# Altium schematic symbol library PC110.SchLib: 45 symbols (part 1 of 2)
Pins are listed as number, name and electrical type; pins without a type are passive.

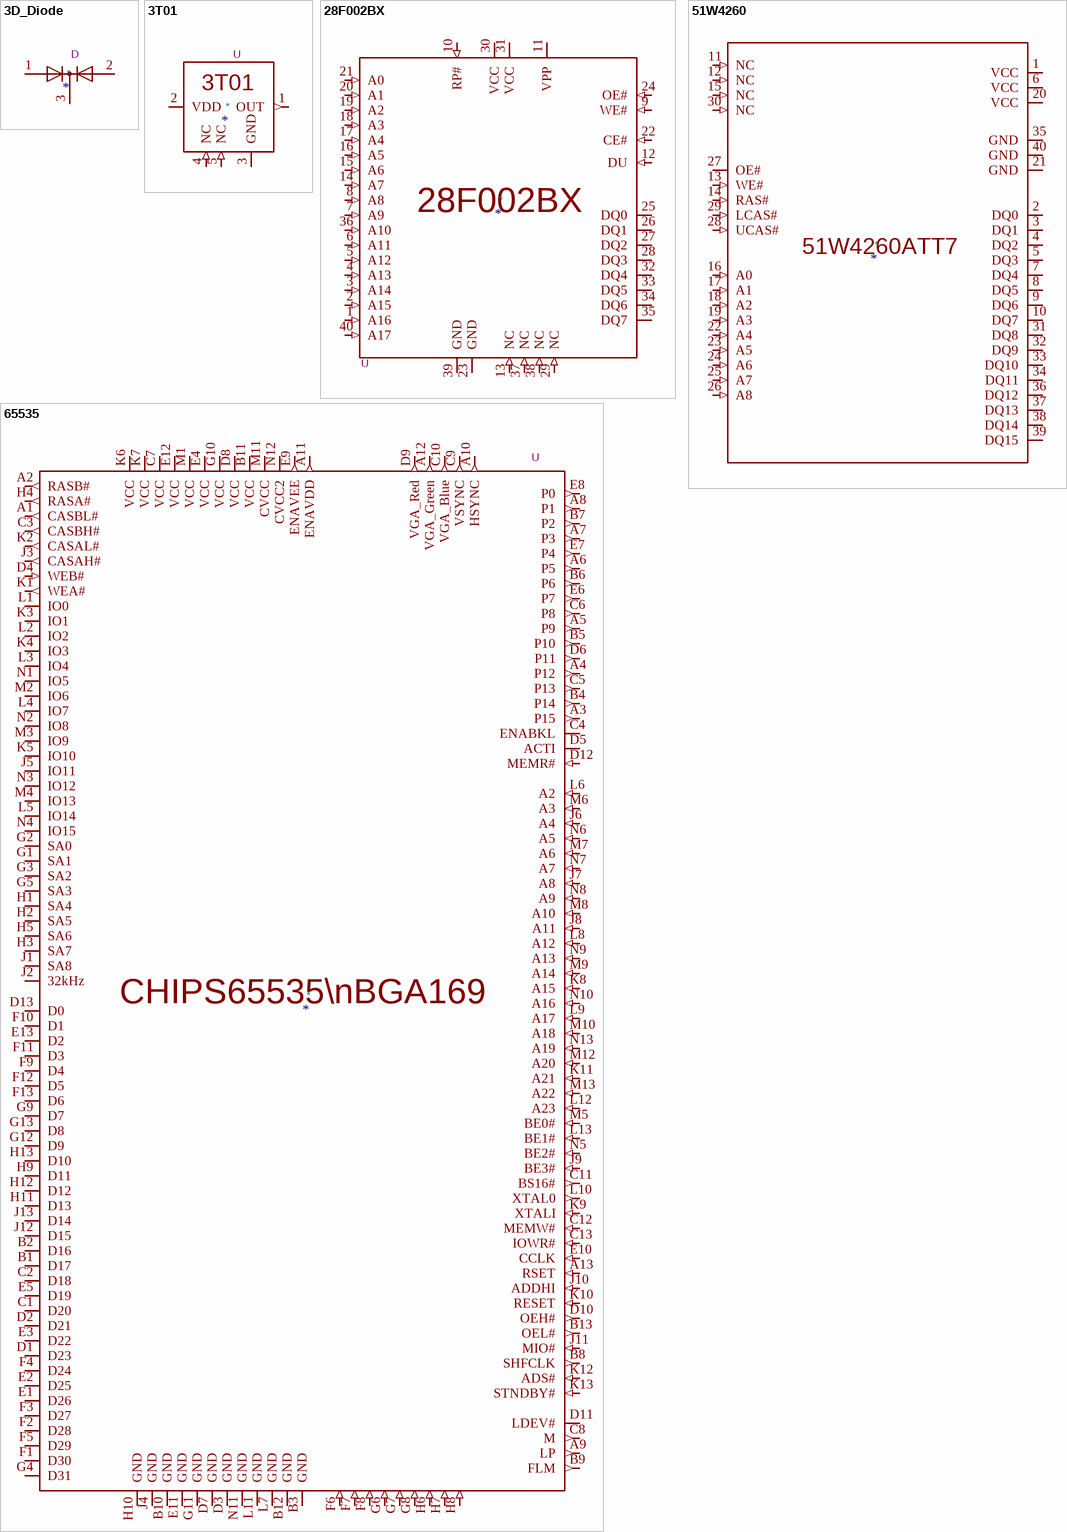
[diagram p0: symbols 3D_Diode to 65535]

## 3D_Diode
designator *  Reference: D
pins: 1, 2, 3

## 3T01
designator *  Reference: U
pins: 1 OUT (out), 2 VDD (power), 3 GND (power), 4 NC (in), 5 NC (in)

## 28F002BX
designator *  Reference: U
pins: 1 A16 (in), 2 A15 (in), 3 A14 (in), 4 A13 (in), 5 A12 (in), 6 A11 (in), 7 A9 (in), 8 A8 (in), 9 WE# (in), 10 RP# (in), 11 VPP (power), 12 DU (in), 13 NC (in), 14 A7 (in), 15 A6 (in), 16 A5 (in), 17 A4 (in), 18 A3 (in), 19 A2 (in), 20 A1 (in), 21 A0 (in), 22 CE# (in), 23 GND (power), 24 OE# (in), 25 DQ0 (io), 26 DQ1 (io), 27 DQ2 (io), 28 DQ3 (io), 29 NC (in), 30 VCC (power), 31 VCC (power), 32 DQ4 (io), 33 DQ5 (io), 34 DQ6 (io), 35 DQ7 (io), 36 A10 (in), 37 NC (in), 38 NC (in), 39 GND (power), 40 A17 (in)

## 51W4260
designator *
Reference: U
pins: 1 VCC (power), 2 DQ0 (io), 3 DQ1 (io), 4 DQ2 (io), 5 DQ3 (io), 6 VCC (power), 7 DQ4 (io), 8 DQ5 (io), 9 DQ6 (io), 10 DQ7 (io), 11 NC (in), 12 NC (in), 13 WE# (in), 14 RAS# (in), 15 NC (in), 16 A0 (in), 17 A1 (in), 18 A2 (in), 19 A3 (in), 20 VCC (power), 21 GND (power), 22 A4 (in), 23 A5 (in), 24 A6 (in), 25 A7 (in), 26 A8 (in), 27 OE# (power), 28 UCAS# (in), 29 LCAS# (in), 30 NC (in), 31 DQ8 (io), 32 DQ9 (io), 33 DQ10 (io), 34 DQ11 (io), 35 GND (power), 36 DQ12 (io), 37 DQ13 (io), 38 DQ14 (io), 39 DQ15 (io), 40 GND (power)
text: 51W4260ATT7

## 65535
designator *  Reference: U
pins: A1 CASBL# (out), A2 RASB# (out), A3 P15 (out), A4 P12 (out), A5 P9 (out), A6 P5 (out), A7 P3 (out), A8 P1 (out), A9 LP (out), A10 HSYNC (out), A11 ENAVDD (out), A12 VGA_Green (out), A13 RSET (in), B1 D17 (io), B2 D16 (io), B3 GND (power), B4 P14 (out), B5 P10 (out), B6 P6 (out), B7 P2 (out), B8 SHFCLK (out), B9 FLM (out), B10 GND (power), B11 VCC (power), B12 GND (power), B13 OEL# (out), C1 D20 (io), C2 D18 (io), C3 CASBH# (out), C4 ENABKL (io), C5 P13 (out), C6 P8 (out), C7 VCC (power), C8 M (out), C9 VSYNC (out), C10 VGA_Blue (out), C11 BS16# (out), C12 MEMW# (in), C13 IOWR# (in), D1 D23 (io), D2 D21 (io), D3 GND (power), D4 WEB# (in), D5 ACTI (io), D6 P11 (out), D7 GND (power), D8 VCC (power), D9 VGA_Red (out), D10 OEH# (out), D11 LDEV# (io), D12 MEMR# (in), D13 D0 (io), E1 D26 (io), E2 D25 (io), E3 D22 (io), E4 VCC (power), E5 D19 (io), E6 P7 (out), E7 P4 (out), E8 P0 (out), E9 ENAVEE (out), E10 CCLK (in), E11 GND (power), E12 VCC (power), E13 D2 (io), F1 D30 (io), F2 D28 (io), F3 D27 (io), F4 D24 (io), F5 D29 (io), F6 (in), F7 (in), F8 (in), F9 D4 (io), F10 D1 (io), F11 D3 (io), F12 D5 (io), F13 D6 (io), G1 SA1 (io), G2 SA0 (io), G3 SA2 (io), G4 D31 (io), G5 SA3 (io), G6 (in), G7 (in), G8 (in), G9 D7 (io), G10 VCC (power), G11 GND (power), G12 D9 (io), G13 D8 (io), H1 SA4 (io), H2 SA5 (io), H3 SA7 (io), H4 RASA# (out), H5 SA6 (io), H6 (in), H7 (in), H8 (in), H9 D11 (io), H10 GND (power), H11 D13 (io), H12 D12 (io), H13 D10 (io), J1 SA8 (io), J2 32kHz (io), J3 CASAH# (out), J4 GND (power), J5 IO11 (io), J6 A4 (in), J7 A8 (in), J8 A11 (in), J9 BE3# (in), J10 ADDHI (in), J11 MIO# (in), J12 D15 (io), J13 D14 (io), K1 WEA# (out), K2 CASAL# (out), K3 IO1 (io), K4 IO3 (io), K5 IO10 (io), K6 VCC (power), K7 VCC (power), K8 A15 (in), K9 XTALI (in), K10 RESET (in), K11 A21 (in), K12 ADS# (in), K13 STNDBY# (in), L1 IO0 (io), L2 IO2 (io), L3 IO4 (io), L4 IO7 (io), L5 IO14 (io), L6 A2 (in), L7 GND (power), L8 A12 (in), L9 A17 (in), L10 XTAL0 (out), L11 GND (power), L12 A23 (in), L13 BE1# (in), M1 VCC (power), M2 IO6 (io), M3 IO9 (io), M4 IO13 (io), M5 BE0# (in), M6 A3 (in), M7 A6 (in), M8 A10 (in), M9 A14 (in), M10 A18 (in), M11 CVCC (power), M12 A20 (in), M13 A22 (in), N1 IO5 (io), N2 IO8 (io), N3 IO12 (io), N4 IO15 (io), N5 BE2# (in), N6 A5 (in), N7 A7 (in), N8 A9 (in), N9 A13 (in), N10 A16 (in), N11 GND (power), N12 CVCC2 (power), N13 A19 (in)
text: CHIPS65535\nBGA169

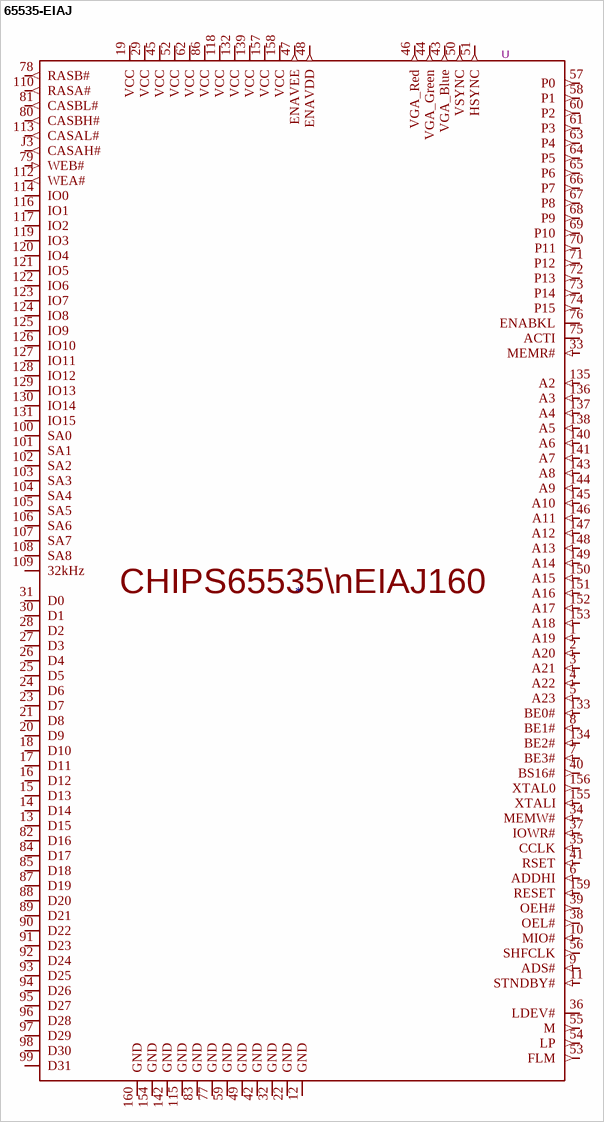
[diagram p1: symbol 65535-EIAJ]

## 65535-EIAJ
designator *  Reference: U
pins: 1 A19 (in), 2 A20 (in), 3 A21 (in), 4 A22 (in), 5 A23 (in), 6 ADDHI (in), 7 BE3# (in), 8 BE1# (in), 9 ADS# (in), 10 MIO# (in), 11 STNDBY# (in), 12 GND (power), 13 D15 (io), 14 D14 (io), 15 D13 (io), 16 D12 (io), 17 D11 (io), 18 D10 (io), 19 VCC (power), 20 D9 (io), 21 D8 (io), 22 GND (power), 23 D7 (io), 24 D6 (io), 25 D5 (io), 26 D4 (io), 27 D3 (io), 28 D2 (io), 29 VCC (power), 30 D1 (io), 31 D0 (io), 32 GND (power), 33 MEMR# (in), 34 MEMW# (in), 35 CCLK (in), 36 LDEV# (io), 37 IOWR# (in), 38 OEL# (out), 39 OEH# (out), 40 BS16# (out), 41 RSET (in), 42 GND (power), 43 VGA_Blue (out), 44 VGA_Green (out), 45 VCC (power), 46 VGA_Red (out), 47 ENAVEE (out), 48 ENAVDD (out), 49 GND (power), 50 VSYNC (out), 51 HSYNC (out), 52 VCC (power), 53 FLM (out), 54 LP (out), 55 M (out), 56 SHFCLK (out), 57 P0 (out), 58 P1 (out), 59 GND (power), 60 P2 (out), 61 P3 (out), 62 VCC (power), 63 P4 (out), 64 P5 (out), 65 P6 (out), 66 P7 (out), 67 P8 (out), 68 P9 (out), 69 P10 (out), 70 P11 (out), 71 P12 (out), 72 P13 (out), 73 P14 (out), 74 P15 (out), 75 ACTI (io), 76 ENABKL (io), 77 GND (power), 78 RASB# (out), 79 WEB# (in), 80 CASBH# (out), 81 CASBL# (out), 82 D16 (io), 83 GND (power), 84 D17 (io), 85 D18 (io), 86 VCC (power), 87 D19 (io), 88 D20 (io), 89 D21 (io), 90 D22 (io), 91 D23 (io), 92 D24 (io), 93 D25 (io), 94 D26 (io), 95 D27 (io), 96 D28 (io), 97 D29 (io), 98 D30 (io), 99 D31 (io), 100 SA0 (io), 101 SA1 (io), 102 SA2 (io), 103 SA3 (io), 104 SA4 (io), 105 SA5 (io), 106 SA6 (io), 107 SA7 (io), 108 SA8 (io), 109 32kHz (io), 110 RASA# (out), 112 WEA# (out), 113 CASAL# (out), 114 IO0 (io), 115 GND (power), 116 IO1 (io), 117 IO2 (io), 118 VCC (power), 119 IO3 (io), 120 IO4 (io), 121 IO5 (io), 122 IO6 (io), 123 IO7 (io), 124 IO8 (io), 125 IO9 (io), 126 IO10 (io), 127 IO11 (io), 128 IO12 (io), 129 IO13 (io), 130 IO14 (io), 131 IO15 (io), 132 VCC (power), 133 BE0# (in), 134 BE2# (in), 135 A2 (in), 136 A3 (in), 137 A4 (in), 138 A5 (in), 139 VCC (power), 140 A6 (in), 141 A7 (in), 142 GND (power), 143 A8 (in), 144 A9 (in), 145 A10 (in), 146 A11 (in), 147 A12 (in), 148 A13 (in), 149 A14 (in), 150 A15 (in), 151 A16 (in), 152 A17 (in), 153 A18 (in), 154 GND (power), 155 XTALI (in), 156 XTAL0 (out), 157 VCC (power), 158 VCC (power), 159 RESET (in), 160 GND (power), J3 CASAH# (out)
text: CHIPS65535\nEIAJ160

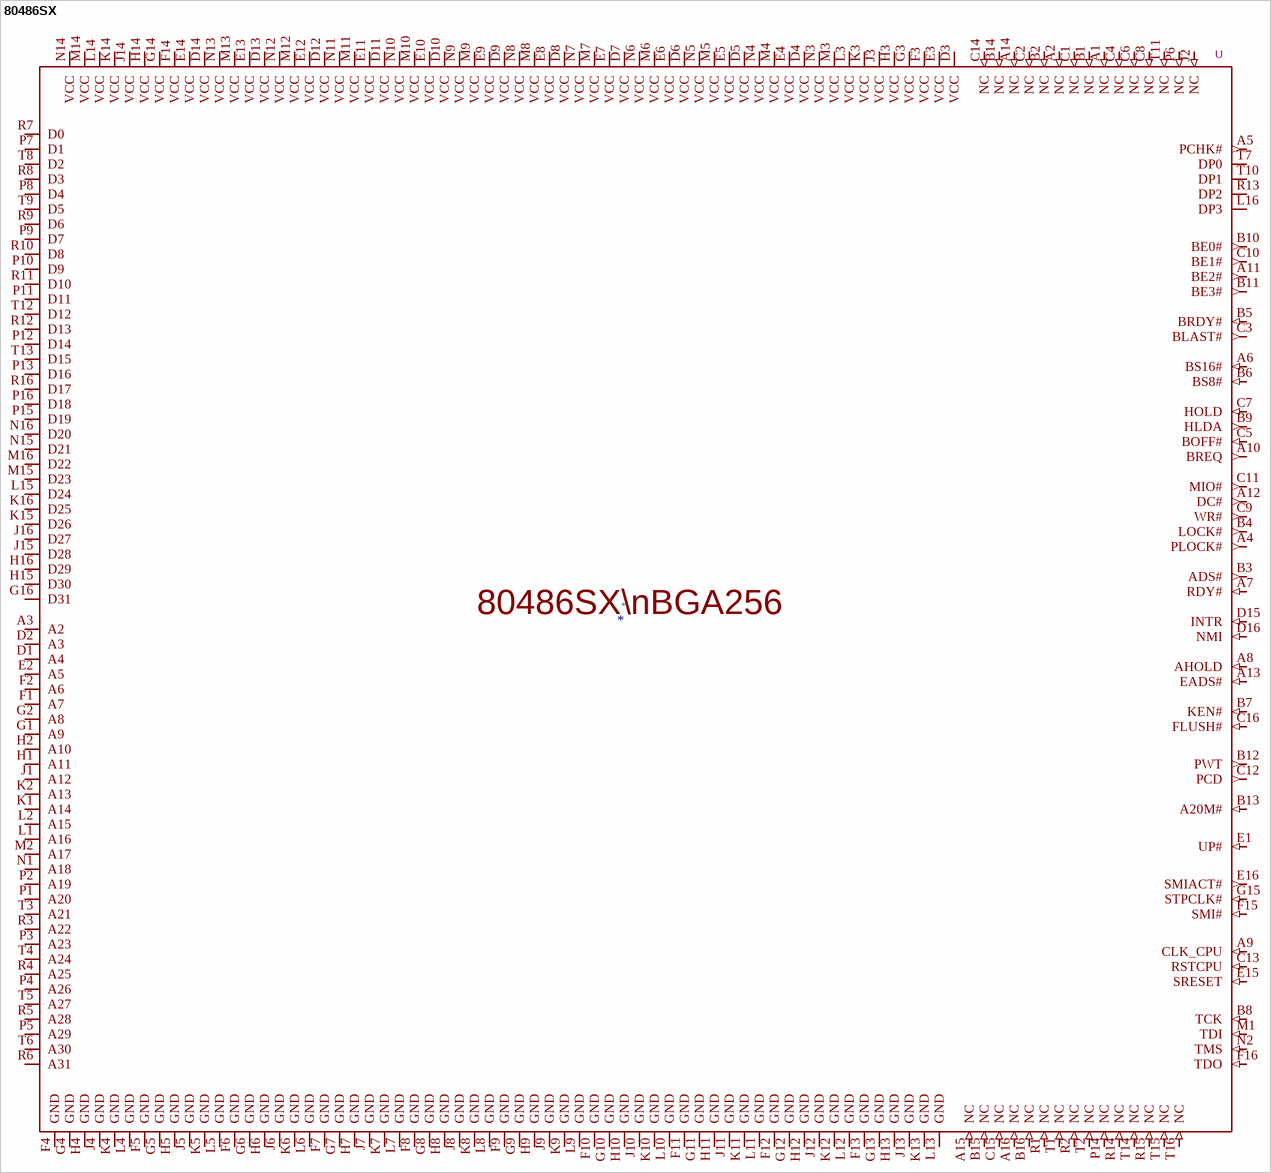
[diagram p2: symbol 80486SX]

## 80486SX
designator *  Reference: U
pins: A1 NC (in), A2 NC (in), A3 A2 (io), A4 PLOCK# (out), A5 PCHK# (out), A6 BS16# (in), A7 RDY# (in), A8 AHOLD (in), A9 CLK_CPU (in), A10 BREQ (out), A11 BE2# (out), A12 DC# (out), A13 EADS# (in), A14 NC (in), A15 NC (in), A16 NC (in), B1 NC (in), B2 NC (in), B3 ADS# (out), B4 LOCK# (out), B5 BRDY# (in), B6 BS8# (in), B7 KEN# (in), B8 TCK (in), B9 HLDA (out), B10 BE0# (out), B11 BE3# (out), B12 PWT (out), B13 A20M# (in), B14 NC (in), B15 NC (in), B16 NC (in), C1 NC (in), C2 NC (in), C3 BLAST# (out), C4 NC (in), C5 BOFF# (in), C6 NC (in), C7 HOLD (in), C8 NC (in), C9 WR# (out), C10 BE1# (out), C11 MIO# (out), C12 PCD (out), C13 RSTCPU (in), C14 NC (in), C15 NC (in), C16 FLUSH# (in), D1 A4 (io), D2 A3 (io), D3 VCC (power), D4 VCC (power), D5 VCC (power), D6 VCC (power), D7 VCC (power), D8 VCC (power), D9 VCC (power), D10 VCC (power), D11 VCC (power), D12 VCC (power), D13 VCC (power), D14 VCC (power), D15 INTR (in), D16 NMI (in), E1 UP# (in), E2 A5 (io), E3 VCC (power), E4 VCC (power), E5 VCC (power), E6 VCC (power), E7 VCC (power), E8 VCC (power), E9 VCC (power), E10 VCC (power), E11 VCC (power), E12 VCC (power), E13 VCC (power), E14 VCC (power), E15 SRESET (in), E16 SMIACT# (out), F1 A7 (io), F2 A6 (io), F3 VCC (power), F4 GND (power), F5 GND (power), F6 GND (power), F7 GND (power), F8 GND (power), F9 GND (power), F10 GND (power), F11 GND (power), F12 GND (power), F13 GND (power), F14 VCC (power), F15 SMI# (in), F16 TDO (in), G1 A9 (io), G2 A8 (io), G3 VCC (power), G4 GND (power), G5 GND (power), G6 GND (power), G7 GND (power), G8 GND (power), G9 GND (power), G10 GND (power), G11 GND (power), G12 GND (power), G13 GND (power), G14 VCC (power), G15 STPCLK# (in), G16 D31 (io), H1 A11 (io), H2 A10 (io), H3 VCC (power), H4 GND (power), H5 GND (power), H6 GND (power), H7 GND (power), H8 GND (power), H9 GND (power), H10 GND (power), H11 GND (power), H12 GND (power), H13 GND (power), H14 VCC (power), H15 D30 (io), H16 D29 (io), J1 A12 (io), J2 NC (in), J3 VCC (power), J4 GND (power), J5 GND (power), J6 GND (power), J7 GND (power), J8 GND (power), J9 GND (power), J10 GND (power), J11 GND (power), J12 GND (power), J13 GND (power), J14 VCC (power), J15 D28 (io), J16 D27 (io), K1 A14 (io), K2 A13 (io), K3 VCC (power), K4 GND (power), K5 GND (power), K6 GND (power), K7 GND (power), K8 GND (power), K9 GND (power), K10 GND (power), K11 GND (power), K12 GND (power), K13 GND (power), K14 VCC (power), K15 D26 (io), K16 D25 (io), L1 A16 (io), L2 A15 (io), L3 VCC (power), L4 GND (power), L5 GND (power), L6 GND (power), L7 GND (power), L8 GND (power), L9 GND (power), L10 GND (power), L11 GND (power), L12 GND (power), L13 GND (power), L14 VCC (power), L15 D24 (io), L16 DP3 (io), M1 TDI (in), M2 A17 (io), M3 VCC (power), M4 VCC (power), M5 VCC (power), M6 VCC (power), M7 VCC (power), M8 VCC (power), M9 VCC (power), M10 VCC (power), M11 VCC (power), M12 VCC (power), M13 VCC (power), M14 VCC (power), M15 D23 (io), M16 D22 (io), N1 A18 (io), N2 TMS (in), N3 VCC (power), N4 VCC (power), N5 VCC (power), N6 VCC (power), N7 VCC (power), N8 VCC (power), N9 VCC (power), N10 VCC (power), N11 VCC (power), N12 VCC (power), N13 VCC (power), N14 VCC (power), N15 D21 (io), N16 D20 (io), P1 A20 (io), P2 A19 (io), P3 A23 (io), P4 A26 (io), P5 A29 (io), P6 NC (in), P7 D1 (io), P8 D4 (io), P9 D7 (io), P10 D9 (io), P11 D11 (io), P12 D14 (io), P13 D16 (io), P14 NC (in), P15 D19 (io), P16 D18 (io), R1 NC (in), R2 NC (in), R3 A22 (io), R4 A25 (io), R5 A28 (io), R6 A31 (io), R7 D0 (io), R8 D3 (io), R9 D6 (io), R10 D8 (io), R11 D10 (io), R12 D13 (io), R13 DP2 (io), R14 NC (in), R15 NC (in), R16 D17 (io), T1 NC (in), T2 NC (in), T3 A21 (io), T4 A24 (io), T5 A27 (io), T6 A30 (io), T7 DP0 (io), T8 D2 (io), T9 D5 (io), T10 DP1 (io), T11 NC (in), T12 D12 (io), T13 D15 (io), T14 NC (in), T15 NC (in), T16 NC (in)
text: 80486SX\nBGA256

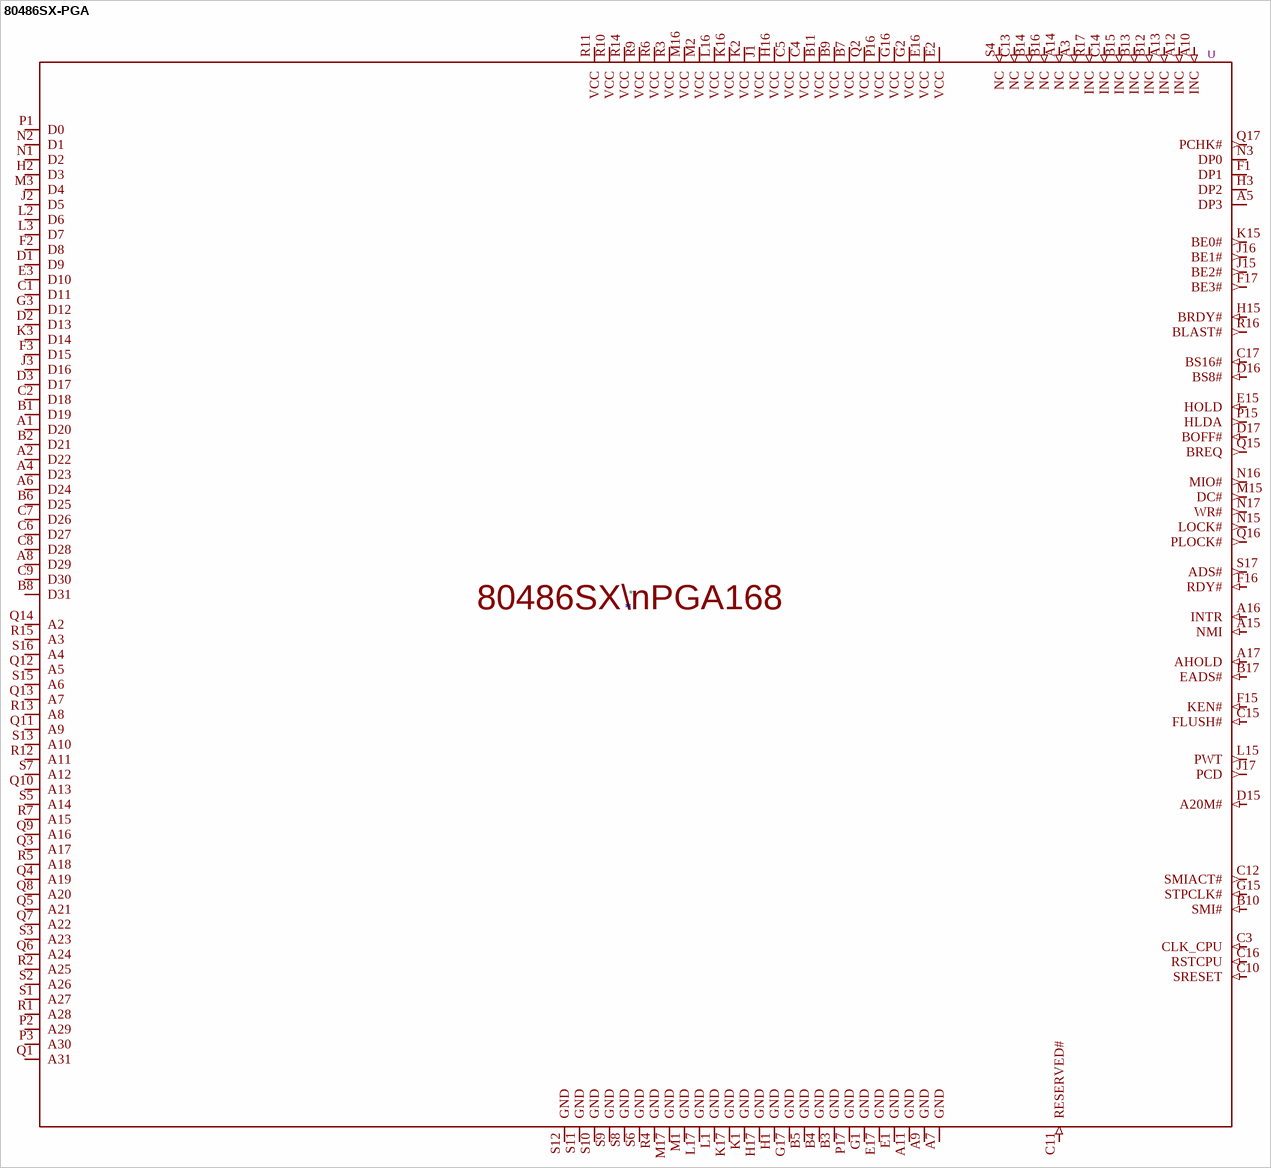
[diagram p3: symbol 80486SX-PGA]

## 80486SX-PGA
designator *  Reference: U
pins: A1 D20 (io), A2 D22 (io), A3 NC (in), A4 D23 (io), A5 DP3 (io), A6 D24 (io), A7 GND (power), A8 D29 (io), A9 GND (power), A10 INC (in), A11 GND (power), A12 INC (in), A13 INC (in), A14 NC (in), A15 NMI (in), A16 INTR (in), A17 AHOLD (in), B1 D19 (io), B2 D21 (io), B3 GND (power), B4 GND (power), B5 GND (power), B6 D25 (io), B7 VCC (power), B8 D31 (io), B9 VCC (power), B10 SMI# (in), B11 VCC (power), B12 INC (in), B13 INC (in), B14 NC (in), B15 INC (in), B16 NC (in), B17 EADS# (in), C1 D11 (io), C2 D18 (io), C3 CLK_CPU (in), C4 VCC (power), C5 VCC (power), C6 D27 (io), C7 D26 (io), C8 D28 (io), C9 D30 (io), C10 SRESET (in), C11 RESERVED# (in), C12 SMIACT# (out), C13 NC (in), C14 INC (in), C15 FLUSH# (in), C16 RSTCPU (in), C17 BS16# (in), D1 D9 (io), D2 D13 (io), D3 D17 (io), D15 A20M# (in), D16 BS8# (in), D17 BOFF# (in), E1 GND (power), E2 VCC (power), E3 D10 (io), E15 HOLD (in), E16 VCC (power), E17 GND (power), F1 DP1 (io), F2 D8 (io), F3 D15 (io), F15 KEN# (in), F16 RDY# (in), F17 BE3# (out), G1 GND (power), G2 VCC (power), G3 D12 (io), G15 STPCLK# (in), G16 VCC (power), G17 GND (power), H1 GND (power), H2 D3 (io), H3 DP2 (io), H15 BRDY# (in), H16 VCC (power), H17 GND (power), J1 VCC (power), J2 D5 (io), J3 D16 (io), J15 BE2# (out), J16 BE1# (out), J17 PCD (out), K1 GND (power), K2 VCC (power), K3 D14 (io), K15 BE0# (out), K16 VCC (power), K17 GND (power), L1 GND (power), L2 D6 (io), L3 D7 (io), L15 PWT (out), L16 VCC (power), L17 GND (power), M1 GND (power), M2 VCC (power), M3 D4 (io), M15 DC# (out), M16 VCC (power), M17 GND (power), N1 D2 (io), N2 D1 (io), N3 DP0 (io), N15 LOCK# (out), N16 MIO# (out), N17 WR# (out), P1 D0 (io), P2 A29 (io), P3 A30 (io), P15 HLDA (out), P16 VCC (power), P17 GND (power), Q1 A31 (io), Q2 VCC (power), Q3 A17 (io), Q4 A19 (io), Q5 A21 (io), Q6 A24 (io), Q7 A22 (io), Q8 A20 (io), Q9 A16 (io), Q10 A13 (io), Q11 A9 (io), Q12 A5 (io), Q13 A7 (io), Q14 A2 (io), Q15 BREQ (out), Q16 PLOCK# (out), Q17 PCHK# (out), R1 A28 (io), R2 A25 (io), R3 VCC (power), R4 GND (power), R5 A18 (io), R6 VCC (power), R7 A15 (io), R9 VCC (power), R10 VCC (power), R11 VCC (power), R12 A11 (io), R13 A8 (io), R14 VCC (power), R15 A3 (io), R16 BLAST# (out), R17 INC (in), S1 A27 (io), S2 A26 (io), S3 A23 (io), S4 NC (in), S5 A14 (io), S6 GND (power), S7 A12 (io), S8 GND (power), S9 GND (power), S10 GND (power), S11 GND (power), S12 GND (power), S13 A10 (io), S15 A6 (io), S16 A4 (io), S17 ADS# (out)
text: 80486SX\nPGA168

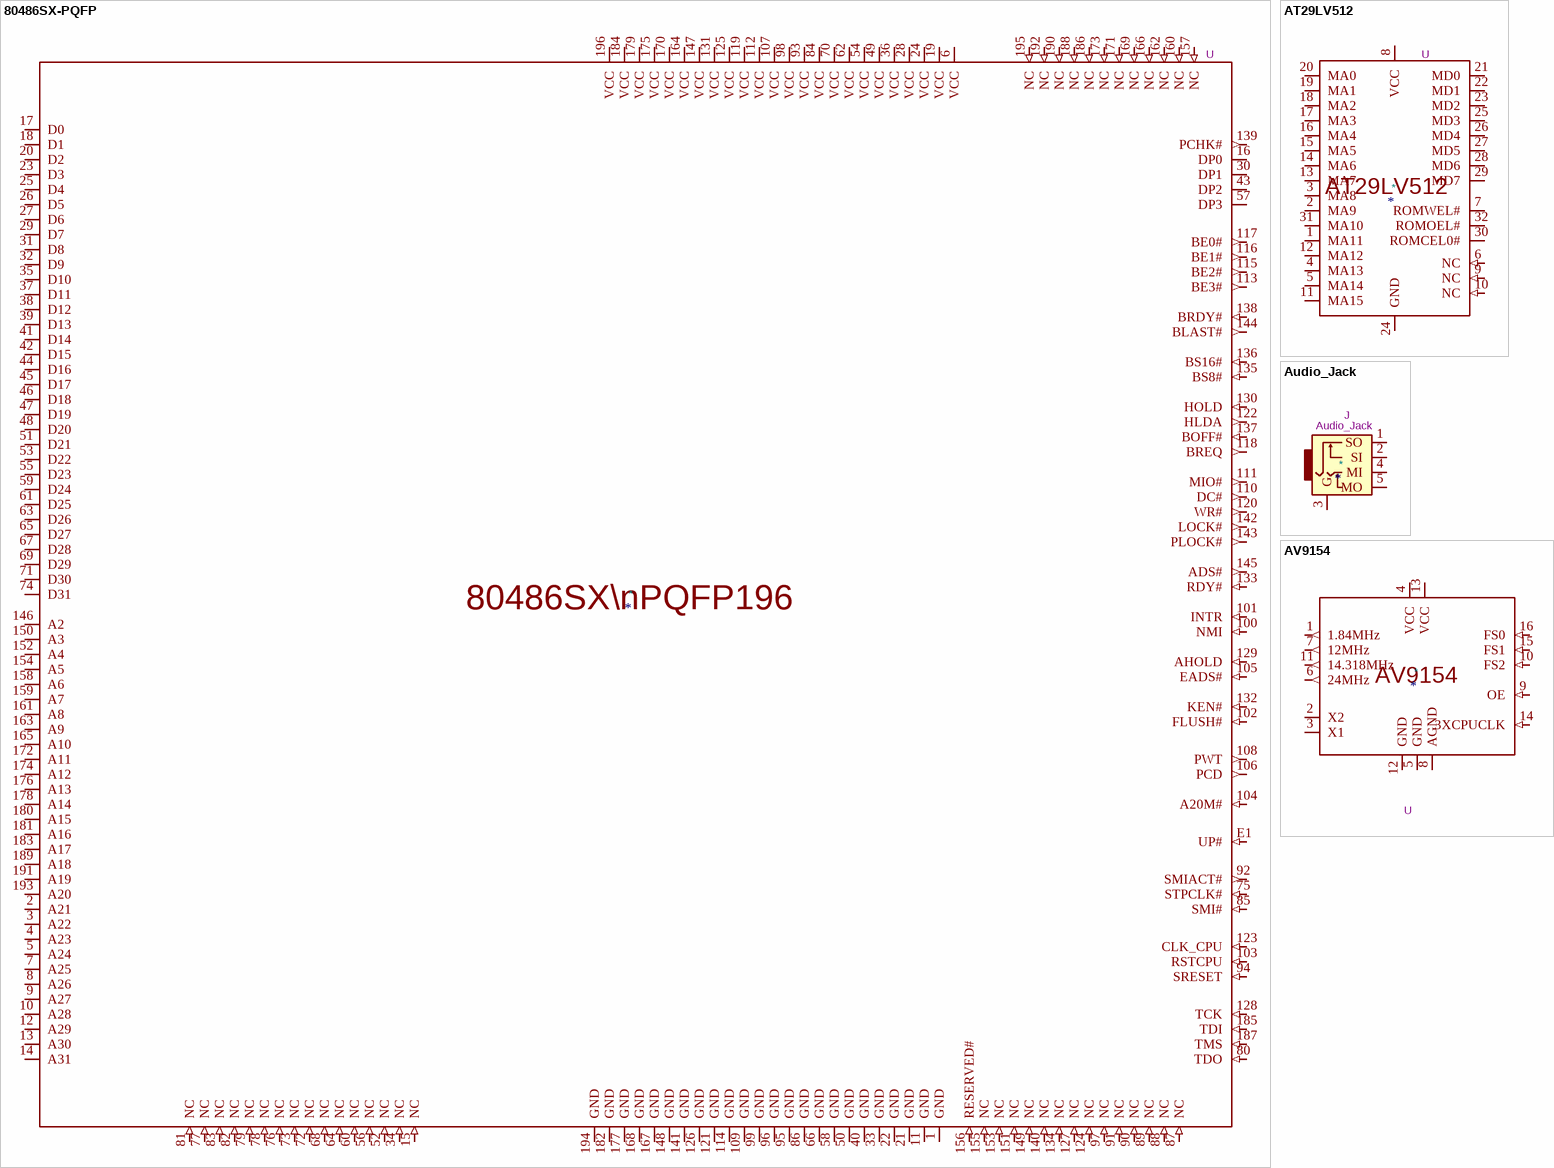
[diagram p4: symbols 80486SX-PQFP to AV9154]

## 80486SX-PQFP
designator *  Reference: U
pins: 1 GND (power), 2 A21 (io), 3 A22 (io), 4 A23 (io), 5 A24 (io), 6 VCC (power), 7 A25 (io), 8 A26 (io), 9 A27 (io), 10 A28 (io), 11 GND (power), 12 A29 (io), 13 A30 (io), 14 A31 (io), 15 NC (in), 16 DP0 (io), 17 D0 (io), 18 D1 (io), 19 VCC (power), 20 D2 (io), 21 GND (power), 22 GND (power), 23 D3 (io), 24 VCC (power), 25 D4 (io), 26 D5 (io), 27 D6 (io), 28 VCC (power), 29 D7 (io), 30 DP1 (io), 31 D8 (io), 32 D9 (io), 33 GND (power), 34 NC (in), 35 D10 (io), 36 VCC (power), 37 D11 (io), 38 D12 (io), 39 D13 (io), 40 GND (power), 41 D14 (io), 42 D15 (io), 43 DP2 (io), 44 D16 (io), 45 D17 (io), 46 D18 (io), 47 D19 (io), 48 D20 (io), 49 VCC (power), 50 GND (power), 51 D21 (io), 52 NC (in), 53 D22 (io), 54 VCC (power), 55 D23 (io), 56 NC (in), 57 DP3 (io), 58 GND (power), 59 D24 (io), 60 NC (in), 61 D25 (io), 62 VCC (power), 63 D26 (io), 64 NC (in), 65 D27 (io), 66 GND (power), 67 D28 (io), 68 NC (in), 69 D29 (io), 70 VCC (power), 71 D30 (io), 72 NC (in), 73 NC (in), 74 D31 (io), 75 STPCLK# (in), 76 NC (in), 77 NC (in), 78 NC (in), 79 NC (in), 80 TDO (in), 81 NC (in), 82 NC (in), 83 NC (in), 84 VCC (power), 85 SMI# (in), 86 GND (power), 87 NC (in), 88 NC (in), 89 NC (in), 90 NC (in), 91 NC (in), 92 SMIACT# (out), 93 VCC (power), 94 SRESET (in), 95 GND (power), 96 GND (power), 97 NC (in), 98 VCC (power), 99 GND (power), 100 NMI (in), 101 INTR (in), 102 FLUSH# (in), 103 RSTCPU (in), 104 A20M# (in), 105 EADS# (in), 106 PCD (out), 107 VCC (power), 108 PWT (out), 109 GND (power), 110 DC# (out), 111 MIO# (out), 112 VCC (power), 113 BE3# (out), 114 GND (power), 115 BE2# (out), 116 BE1# (out), 117 BE0# (out), 118 BREQ (out), 119 VCC (power), 120 WR# (out), 121 GND (power), 122 HLDA (out), 123 CLK_CPU (in), 124 NC (in), 125 VCC (power), 126 GND (power), 127 NC (in), 128 TCK (in), 129 AHOLD (in), 130 HOLD (in), 131 VCC (power), 132 KEN# (in), 133 RDY# (in), 134 NC (in), 135 BS8# (in), 136 BS16# (in), 137 BOFF# (in), 138 BRDY# (in), 139 PCHK# (out), 140 NC (in), 141 GND (power), 142 LOCK# (out), 143 PLOCK# (out), 144 BLAST# (out), 145 ADS# (out), 146 A2 (io), 147 VCC (power), 148 GND (power), 149 NC (in), 150 A3 (io), 151 NC (in), 152 A4 (io), 153 NC (in), 154 A5 (io), 155 NC (in), 156 RESERVED# (in), 157 NC (in), 158 A6 (io), 159 A7 (io), 160 NC (in), 161 A8 (io), 162 NC (in), 163 A9 (io), 164 VCC (power), 165 A10 (io), 166 NC (in), 167 GND (power), 168 GND (power), 169 NC (in), 170 VCC (power), 171 NC (in), 172 A11 (io), 173 NC (in), 174 A12 (io), 175 VCC (power), 176 A13 (io), 177 GND (power), 178 A14 (io), 179 VCC (power), 180 A15 (io), 181 A16 (io), 182 GND (power), 183 A17 (io), 184 VCC (power), 185 TDI (in), 186 NC (in), 187 TMS (in), 188 NC (in), 189 A18 (io), 190 NC (in), 191 A19 (io), 192 NC (in), 193 A20 (io), 194 GND (power), 195 NC (in), 196 VCC (power), E1 UP# (in)
text: 80486SX\nPQFP196

## AT29LV512
designator *  Reference: U
pins: 1 MA11 (io), 2 MA9 (io), 3 MA8 (io), 4 MA13 (io), 5 MA14 (io), 6 NC (in), 7 ROMWEL# (io), 8 VCC (power), 9 NC (in), 10 NC (in), 11 MA15 (io), 12 MA12 (io), 13 MA7 (io), 14 MA6 (io), 15 MA5 (io), 16 MA4 (io), 17 MA3 (io), 18 MA2 (io), 19 MA1 (io), 20 MA0 (io), 21 MD0 (io), 22 MD1 (io), 23 MD2 (io), 24 GND (power), 25 MD3 (io), 26 MD4 (io), 27 MD5 (io), 28 MD6 (io), 29 MD7 (io), 30 ROMCEL0# (io), 31 MA10 (io), 32 ROMOEL# (io)

## Audio_Jack
designator *  value Audio_Jack  Reference: J
ki_keywords: audio jack receptacle mono headphones phone TS connector; ki_fp_filters: Jack*
pins: 1 SO, 2 SI, 3 G, 4 MI, 5 MO

## AV9154
designator *  Reference: U
pins: 1 1.84MHz (out), 2 X2 (io), 3 X1 (io), 4 VCC (power), 5 GND (power), 6 24MHz (out), 7 12MHz (out), 8 AGND (power), 9 OE (in), 10 FS2 (in), 11 14.318MHz (out), 12 GND (power), 13 VCC (power), 14 3XCPUCLK (in), 15 FS1 (in), 16 FS0 (in)

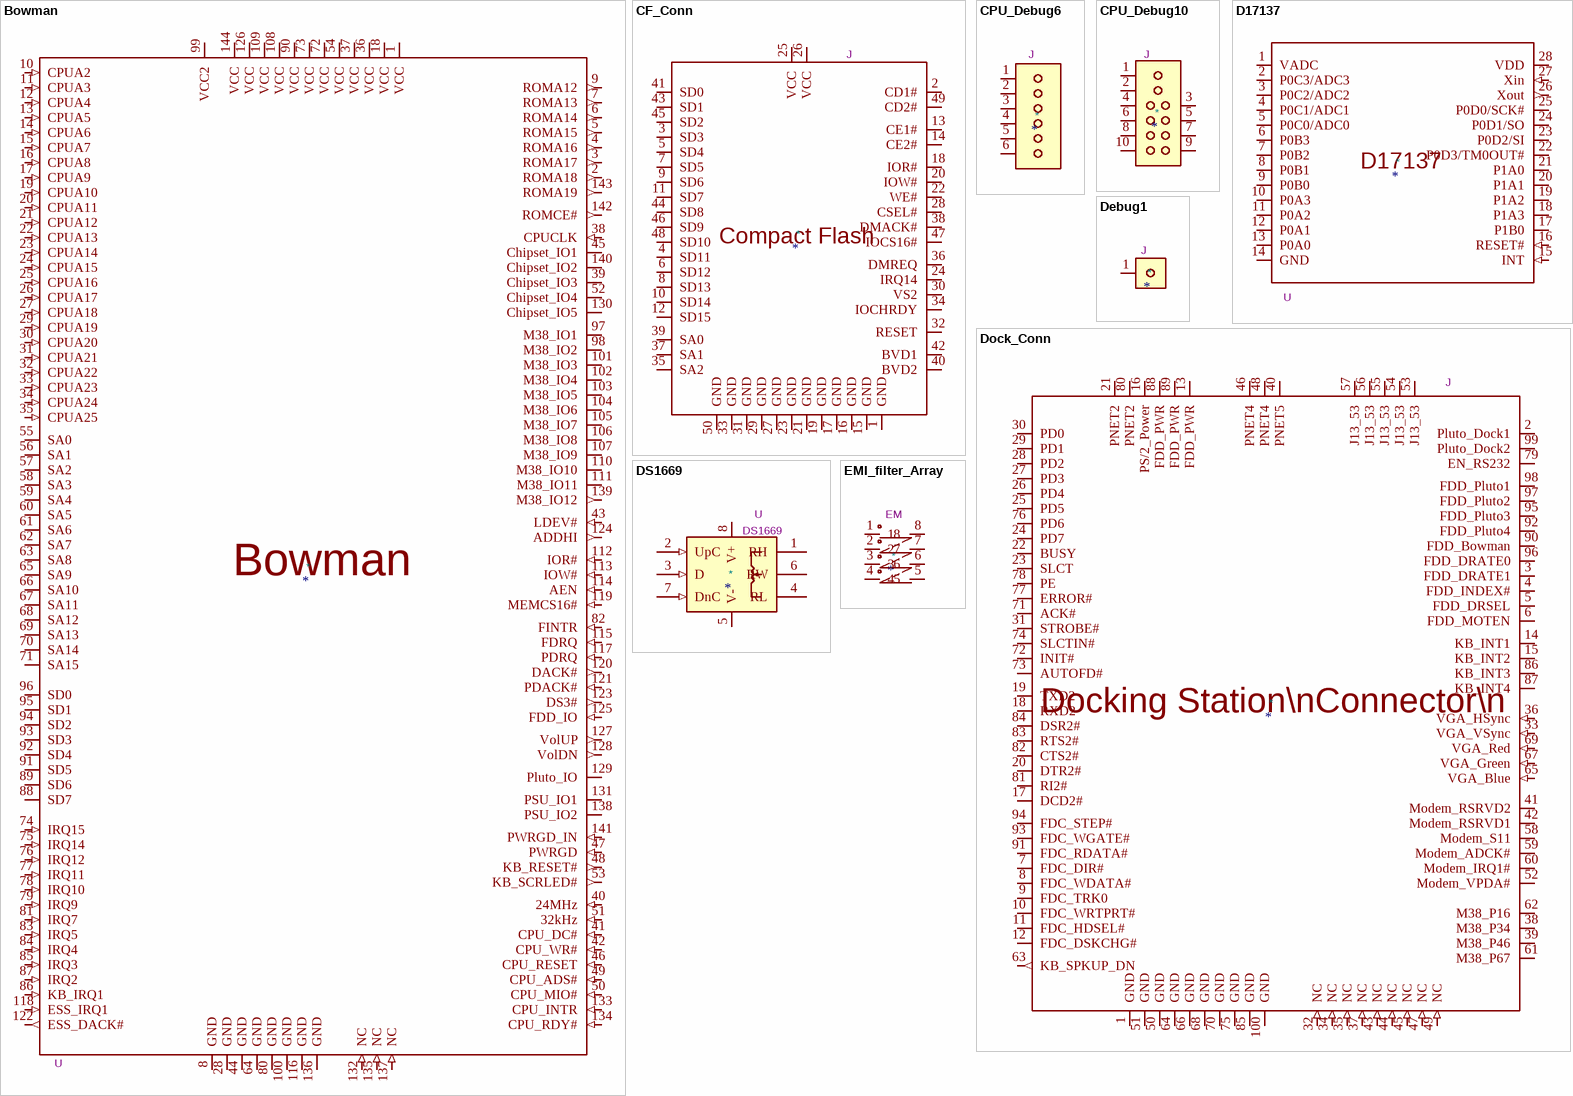
[diagram p5: symbols Bowman to EMI_filter_Array]

## Bowman
designator *  Reference: U
pins: 1 VCC (power), 2 ROMA18 (out), 3 ROMA17 (out), 4 ROMA16 (out), 5 ROMA15 (out), 6 ROMA14 (out), 7 ROMA13 (out), 8 GND (power), 9 ROMA12 (out), 10 CPUA2 (in), 11 CPUA3 (in), 12 CPUA4 (in), 13 CPUA5 (in), 14 CPUA6 (in), 15 CPUA7 (in), 16 CPUA8 (in), 17 CPUA9 (in), 18 VCC (power), 19 CPUA10 (in), 20 CPUA11 (in), 21 CPUA12 (in), 22 CPUA13 (in), 23 CPUA14 (in), 24 CPUA15 (in), 25 CPUA16 (in), 26 CPUA17 (in), 27 CPUA18 (in), 28 GND (power), 29 CPUA19 (in), 30 CPUA20 (in), 31 CPUA21 (in), 32 CPUA22 (in), 33 CPUA23 (in), 34 CPUA24 (in), 35 CPUA25 (in), 36 VCC (power), 37 VCC (power), 38 CPUCLK (in), 39 Chipset_IO3 (io), 40 24MHz (in), 41 CPU_DC# (in), 42 CPU_WR# (in), 43 LDEV# (in), 44 GND (power), 45 Chipset_IO1 (io), 46 CPU_RESET (in), 47 PWRGD (in), 48 KB_RESET# (out), 49 CPU_ADS# (in), 50 CPU_MIO# (in), 51 32kHz (in), 52 Chipset_IO4 (io), 53 KB_SCRLED# (out), 54 VCC (power), 55 SA0 (io), 56 SA1 (io), 57 SA2 (io), 58 SA3 (io), 59 SA4 (io), 60 SA5 (io), 61 SA6 (io), 62 SA7 (io), 63 SA8 (io), 64 GND (power), 65 SA9 (io), 66 SA10 (io), 67 SA11 (io), 68 SA12 (io), 69 SA13 (io), 70 SA14 (io), 71 SA15 (io), 72 VCC (power), 73 VCC (power), 74 IRQ15 (in), 75 IRQ14 (in), 76 IRQ12 (in), 77 IRQ11 (in), 78 IRQ10 (in), 79 IRQ9 (in), 80 GND (power), 81 IRQ7 (in), 82 FINTR (in), 83 IRQ5 (in), 84 IRQ4 (in), 85 IRQ3 (in), 86 KB_IRQ1 (in), 87 IRQ2 (in), 88 SD7 (io), 89 SD6 (io), 90 VCC (power), 91 SD5 (io), 92 SD4 (io), 93 SD3 (io), 94 SD2 (io), 95 SD1 (io), 96 SD0 (io), 97 M38_IO1 (io), 98 M38_IO2 (io), 99 VCC2 (power), 100 GND (power), 101 M38_IO3 (io), 102 M38_IO4 (io), 103 M38_IO5 (io), 104 M38_IO6 (io), 105 M38_IO7 (io), 106 M38_IO8 (io), 107 M38_IO9 (io), 108 VCC (power), 109 VCC (power), 110 M38_IO10 (io), 111 M38_IO11 (io), 112 IOR# (in), 113 IOW# (in), 114 AEN (in), 115 FDRQ (in), 116 GND (power), 117 PDRQ (in), 118 ESS_IRQ1 (in), 119 MEMCS16# (in), 120 DACK# (out), 121 PDACK# (in), 122 ESS_DACK# (out), 123 DS3# (out), 124 ADDHI (out), 125 FDD_IO (in), 126 VCC (power), 127 VolUP (out), 128 VolDN (out), 129 Pluto_IO (io), 130 Chipset_IO5 (io), 131 PSU_IO1 (io), 132 NC (in), 133 CPU_INTR (in), 134 CPU_RDY# (in), 135 NC (in), 136 GND (power), 137 NC (in), 138 PSU_IO2 (io), 139 M38_IO12 (out), 140 Chipset_IO2 (io), 141 PWRGD_IN (in), 142 ROMCE# (out), 143 ROMA19 (out), 144 VCC (power)

## CF_Conn
designator *  Reference: J
pins: 1 GND (power), 2 CD1# (io), 3 SD3 (io), 4 SD11 (io), 5 SD4 (io), 6 SD12 (io), 7 SD5 (io), 8 SD13 (io), 9 SD6 (io), 10 SD14 (io), 11 SD7 (io), 12 SD15 (io), 13 CE1# (io), 14 CE2# (io), 15 GND (power), 16 GND (power), 17 GND (power), 18 IOR# (io), 19 GND (power), 20 IOW# (io), 21 GND (power), 22 WE# (io), 23 GND (power), 24 IRQ14 (io), 25 VCC (power), 26 VCC (power), 27 GND (power), 28 CSEL# (io), 29 GND (power), 30 VS2 (io), 31 GND (power), 32 RESET (io), 33 GND (power), 34 IOCHRDY (io), 35 SA2 (io), 36 DMREQ (io), 37 SA1 (io), 38 DMACK# (io), 39 SA0 (io), 40 BVD2 (io), 41 SD0 (io), 42 BVD1 (io), 43 SD1 (io), 44 SD8 (io), 45 SD2 (io), 46 SD9 (io), 47 IOCS16# (io), 48 SD10 (io), 49 CD2# (io), 50 GND (power)
text: Compact Flash

## CPU_Debug6
designator *  Reference: J
pins: 1, 2, 3, 4, 5, 6

## CPU_Debug10
designator *  Reference: J
pins: 1, 2, 3, 4, 5, 6, 7, 8, 9, 10

## D17137
designator *  Reference: U
pins: 1 VADC (power), 2 P0C3/ADC3 (io), 3 P0C2/ADC2 (io), 4 P0C1/ADC1 (io), 5 P0C0/ADC0 (io), 6 P0B3 (io), 7 P0B2 (io), 8 P0B1 (io), 9 P0B0 (io), 10 P0A3 (io), 11 P0A2 (io), 12 P0A1 (io), 13 P0A0 (io), 14 GND (power), 15 INT (in), 16 RESET# (in), 17 P1B0 (io), 18 P1A3 (io), 19 P1A2 (io), 20 P1A1 (io), 21 P1A0 (io), 22 P0D3/TM0OUT# (io), 23 P0D2/SI (io), 24 P0D1/SO (io), 25 P0D0/SCK# (io), 26 Xout (out), 27 Xin (in), 28 VDD (power)

## Debug1
designator *  Reference: J
pins: 1

## Dock_Conn
designator *  Reference: J
pins: 1 GND (power), 2 Pluto_Dock1 (io), 3 FDD_DRATE1 (io), 4 FDD_INDEX# (io), 5 FDD_DRSEL (io), 6 FDD_MOTEN (io), 7 FDC_DIR# (io), 8 FDC_WDATA# (io), 9 FDC_TRK0 (io), 10 FDC_WRTPRT# (io), 11 FDC_HDSEL# (io), 12 FDC_DSKCHG# (io), 13 FDD_PWR (power), 14 KB_INT1 (io), 15 KB_INT2 (io), 16 PS/2_Power (power), 17 DCD2# (io), 18 RXD2 (io), 19 TXD2 (io), 20 DTR2# (io), 21 PNET2 (power), 22 BUSY (io), 23 SLCT (io), 24 PD7 (io), 25 PD5 (io), 26 PD4 (io), 27 PD3 (io), 28 PD2 (io), 29 PD1 (io), 30 PD0 (io), 31 STROBE# (io), 32 NC (in), 33 VGA_VSync (in), 34 NC (in), 35 NC (in), 36 VGA_HSync (in), 37 NC (in), 38 M38_P34 (io), 39 M38_P46 (io), 40 PNET5 (power), 41 Modem_RSRVD2 (io), 42 Modem_RSRVD1 (io), 43 NC (in), 44 NC (in), 45 NC (in), 46 PNET4 (power), 47 NC (in), 48 PNET4 (power), 49 NC (in), 50 GND (power), 51 GND (power), 52 Modem_VPDA# (io), 53 J13_53 (io), 54 J13_53 (io), 55 J13_53 (io), 56 J13_53 (io), 57 J13_53 (io), 58 Modem_S11 (io), 59 Modem_ADCK# (io), 60 Modem_IRQ1# (io), 61 M38_P67 (io), 62 M38_P16 (io), 63 KB_SPKUP_DN (out), 64 GND (power), 65 VGA_Blue (in), 66 GND (power), 67 VGA_Green (in), 68 GND (power), 69 VGA_Red (in), 70 GND (power), 71 ACK# (io), 72 INIT# (io), 73 AUTOFD# (io), 74 SLCTIN# (io), 75 GND (power), 76 PD6 (io), 77 ERROR# (io), 78 PE (io), 79 EN_RS232 (io), 80 PNET2 (power), 81 RI2# (io), 82 CTS2# (io), 83 RTS2# (io), 84 DSR2# (io), 85 GND (power), 86 KB_INT3 (io), 87 KB_INT4 (io), 88 FDD_PWR (power), 89 FDD_PWR (power), 90 FDD_Bowman (io), 91 FDC_RDATA# (io), 92 FDD_Pluto4 (io), 93 FDC_WGATE# (io), 94 FDC_STEP# (io), 95 FDD_Pluto3 (io), 96 FDD_DRATE0 (io), 97 FDD_Pluto2 (io), 98 FDD_Pluto1 (io), 99 Pluto_Dock2 (io), 100 GND (power)
text: Docking Station\nConnector\n

## DS1669
designator *  value DS1669  Reference: U
ki_keywords: digital potentiometer resistor variable
pins: 1 RH, 2 UpC (in), 3 D (in), 4 RL, 5 V- (power), 6 RW, 7 DnC (in), 8 V+ (power)

## EMI_filter_Array
designator *  Reference: EM
pins: 1, 2, 3, 4, 5, 6, 7, 8

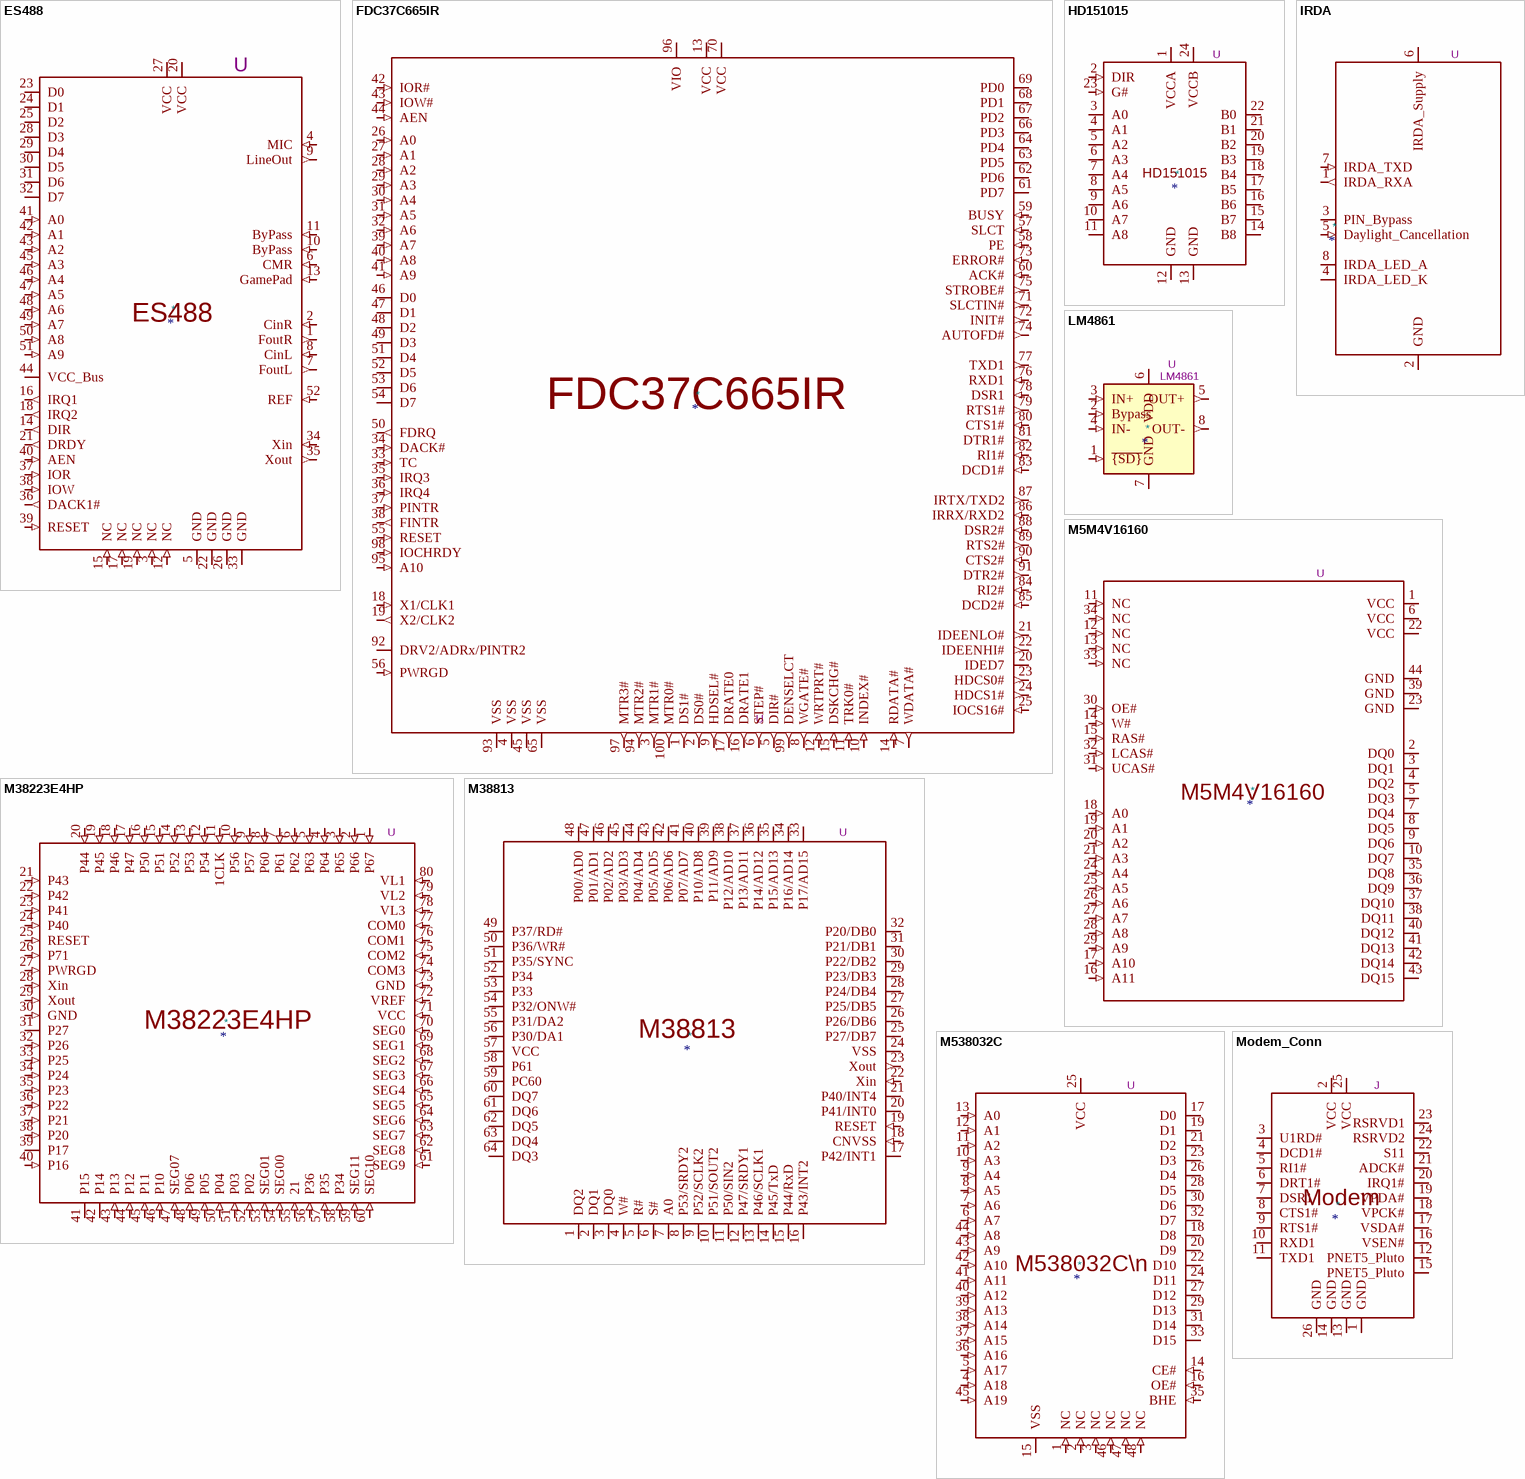
[diagram p6: symbols ES488 to Modem_Conn]

## ES488
designator *  Reference: U
pins: 1 FoutR (out), 2 CinR (in), 3 NC (in), 4 MIC (in), 5 GND (power), 6 CMR (in), 7 FoutL (out), 8 CinL (in), 9 LineOut (out), 10 ByPass (in), 11 ByPass (in), 12 NC (in), 13 GamePad (in), 14 DIR (out), 15 NC (in), 16 IRQ1 (out), 17 NC (in), 18 IRQ2 (out), 19 NC (in), 20 VCC (power), 21 DRDY (out), 22 GND (power), 23 D0 (io), 24 D1 (io), 25 D2 (io), 26 GND (power), 27 VCC (power), 28 D3 (io), 29 D4 (io), 30 D5 (io), 31 D6 (io), 32 D7 (io), 33 GND (power), 34 Xin (in), 35 Xout (out), 36 DACK1# (out), 37 IOR (in), 38 IOW (in), 39 RESET (in), 40 AEN (in), 41 A0 (in), 42 A1 (in), 43 A2 (in), 44 VCC_Bus (power), 45 A3 (in), 46 A4 (in), 47 A5 (in), 48 A6 (in), 49 A7 (in), 50 A8 (in), 51 A9 (in), 52 REF (in)

## FDC37C665IR
designator *  Reference: U
pins: 1 DS1# (out), 2 DS0# (out), 3 MTR1# (out), 4 VSS (power), 5 DIR# (out), 6 STEP# (out), 7 WDATA# (out), 8 WGATE# (out), 9 HDSEL# (out), 10 INDEX# (in), 11 TRK0# (in), 12 WRTPRT# (in), 13 VCC (power), 14 RDATA# (in), 15 DSKCHG# (in), 16 DRATE1 (out), 17 DRATE0 (out), 18 X1/CLK1 (in), 19 X2/CLK2 (out), 20 IDED7 (io), 21 IDEENLO# (out), 22 IDEENHI# (out), 23 HDCS0# (out), 24 HDCS1# (out), 25 IOCS16# (in), 26 A0 (in), 27 A1 (in), 28 A2 (in), 29 A3 (in), 30 A4 (in), 31 A5 (in), 32 A6 (in), 33 TC (in), 34 DACK# (in), 35 IRQ3 (in), 36 IRQ4 (in), 37 PINTR (in), 38 FINTR (out), 39 A7 (in), 40 A8 (in), 41 A9 (in), 42 IOR# (in), 43 IOW# (in), 44 AEN (in), 45 VSS (power), 46 D0 (io), 47 D1 (io), 48 D2 (io), 49 D3 (io), 50 FDRQ (out), 51 D4 (io), 52 D5 (io), 53 D6 (io), 54 D7 (io), 55 RESET (in), 56 PWRGD (in), 57 SLCT (in), 58 PE (in), 59 BUSY (in), 60 ACK# (in), 61 PD7 (io), 62 PD6 (io), 63 PD5 (io), 64 PD4 (io), 65 VSS (power), 66 PD3 (io), 67 PD2 (io), 68 PD1 (io), 69 PD0 (io), 70 VCC (power), 71 SLCTIN# (out), 72 INIT# (out), 73 ERROR# (in), 74 AUTOFD# (out), 75 STROBE# (out), 76 RXD1 (in), 77 TXD1 (out), 78 DSR1 (in), 79 RTS1# (out), 80 CTS1# (in), 81 DTR1# (out), 82 RI1# (in), 83 DCD1# (in), 84 RI2# (in), 85 DCD2# (in), 86 IRRX/RXD2 (in), 87 IRTX/TXD2 (out), 88 DSR2# (in), 89 RTS2# (out), 90 CTS2# (in), 91 DTR2# (out), 92 DRV2/ADRx/PINTR2 (io), 93 VSS (power), 94 MTR2# (out), 95 A10 (in), 96 VIO (power), 97 MTR3# (out), 98 IOCHRDY (in), 99 DENSELCT (out), 100 MTR0# (out)

## HD151015
designator *  Reference: U
pins: 1 VCCA (power), 2 DIR (in), 3 A0 (io), 4 A1 (io), 5 A2 (io), 6 A3 (io), 7 A4 (io), 8 A5 (io), 9 A6 (io), 10 A7 (io), 11 A8 (io), 12 GND (power), 13 GND (power), 14 B8 (io), 15 B7 (io), 16 B6 (io), 17 B5 (io), 18 B4 (io), 19 B3 (io), 20 B2 (io), 21 B1 (io), 22 B0 (io), 23 G# (in), 24 VCCB (power)

## IRDA
designator *  Reference: U
pins: 1 IRDA_RXA (out), 2 GND (power), 3 PIN_Bypass, 4 IRDA_LED_K, 5 Daylight_Cancellation (in), 6 IRDA_Supply (power), 7 IRDA_TXD (in), 8 IRDA_LED_A (power)

## LM4861
designator *  value LM4861  Reference: U
ki_keywords: audio amplifier class d; ki_fp_filters: MSOP*3x3mm*P0.65mm* SOIC*3.9x4.9mm*P1.27mm*
pins: 1 ~{{SD}} (in), 2 Bypass (in), 3 IN+ (in), 4 IN- (in), 5 OUT+ (out), 6 VDD (power), 7 GND (power), 8 OUT- (out)

## M5M4V16160
designator *  Reference: U
pins: 1 VCC (power), 2 DQ0 (io), 3 DQ1 (io), 4 DQ2 (io), 5 DQ3 (io), 6 VCC (power), 7 DQ4 (io), 8 DQ5 (io), 9 DQ6 (io), 10 DQ7 (io), 11 NC (in), 12 NC (in), 13 NC (in), 14 W# (in), 15 RAS# (in), 16 A11 (in), 17 A10 (in), 18 A0 (in), 19 A1 (in), 20 A2 (in), 21 A3 (in), 22 VCC (power), 23 GND (power), 24 A4 (in), 25 A5 (in), 26 A6 (in), 27 A7 (in), 28 A8 (in), 29 A9 (in), 30 OE# (in), 31 UCAS# (in), 32 LCAS# (in), 33 NC (in), 34 NC (in), 35 DQ8 (io), 36 DQ9 (io), 37 DQ10 (io), 38 DQ11 (io), 39 GND (power), 40 DQ12 (io), 41 DQ13 (io), 42 DQ14 (io), 43 DQ15 (io), 44 GND (power)

## M38223E4HP
designator *  Reference: U
pins: 1 P67 (in), 2 P66 (in), 3 P65 (in), 4 P64 (in), 5 P63 (in), 6 P62 (in), 7 P61 (in), 8 P60 (in), 9 P57 (in), 10 P56 (in), 11 1CLK (in), 12 P54 (in), 13 P53 (in), 14 P52 (in), 15 P51 (in), 16 P50 (in), 17 P47 (in), 18 P46 (in), 19 P45 (in), 20 P44 (in), 21 P43 (in), 22 P42 (in), 23 P41 (in), 24 P40 (in), 25 RESET (in), 26 P71 (in), 27 PWRGD (in), 28 Xin (in), 29 Xout (in), 30 GND (in), 31 P27 (io), 32 P26 (in), 33 P25 (in), 34 P24 (in), 35 P23 (in), 36 P22 (in), 37 P21 (in), 38 P20 (in), 39 P17 (io), 40 P16 (in), 41 P15 (io), 42 P14 (io), 43 P13 (in), 44 P12 (in), 45 P11 (in), 46 P10 (in), 47 SEG07 (in), 48 P06 (in), 49 P05 (in), 50 P04 (in), 51 P03 (in), 52 P02 (in), 53 SEG01 (in), 54 SEG00 (in), 55 21 (in), 56 P36 (in), 57 P35 (in), 58 P34 (in), 59 SEG11 (in), 60 SEG10 (in), 61 SEG9 (in), 62 SEG8 (in), 63 SEG7 (in), 64 SEG6 (in), 65 SEG5 (in), 66 SEG4 (in), 67 SEG3 (in), 68 SEG2 (in), 69 SEG1 (in), 70 SEG0 (in), 71 VCC (in), 72 VREF (in), 73 GND (in), 74 COM3 (in), 75 COM2 (in), 76 COM1 (in), 77 COM0 (in), 78 VL3 (in), 79 VL2 (in), 80 VL1 (in)

## M38813
designator *  Reference: U
pins: 1 DQ2 (io), 2 DQ1 (io), 3 DQ0 (io), 4 W# (io), 5 R# (io), 6 S# (io), 7 A0 (io), 8 P53/SRDY2 (io), 9 P52/SCLK2 (io), 10 P51/SOUT2 (io), 11 P50/SIN2 (io), 12 P47/SRDY1 (io), 13 P46/SCLK1 (io), 14 P45/TxD (io), 15 P44/RxD (io), 16 P43/INT2 (io), 17 P42/INT1 (io), 18 CNVSS (in), 19 RESET (in), 20 P41/INT0 (io), 21 P40/INT4 (io), 22 Xin (in), 23 Xout (out), 24 VSS (power), 25 P27/DB7 (io), 26 P26/DB6 (io), 27 P25/DB5 (io), 28 P24/DB4 (io), 29 P23/DB3 (io), 30 P22/DB2 (io), 31 P21/DB1 (io), 32 P20/DB0 (io), 33 P17/AD15 (io), 34 P16/AD14 (io), 35 P15/AD13 (io), 36 P14/AD12 (io), 37 P13/AD11 (io), 38 P12/AD10 (io), 39 P11/AD9 (io), 40 P10/AD8 (io), 41 P07/AD7 (io), 42 P06/AD6 (io), 43 P05/AD5 (io), 44 P04/AD4 (io), 45 P03/AD3 (io), 46 P02/AD2 (io), 47 P01/AD1 (io), 48 P00/AD0 (io), 49 P37/RD# (io), 50 P36/WR# (io), 51 P35/SYNC (io), 52 P34 (io), 53 P33 (io), 54 P32/ONW# (io), 55 P31/DA2 (io), 56 P30/DA1 (io), 57 VCC (power), 58 P61 (io), 59 PC60 (io), 60 DQ7 (io), 61 DQ6 (io), 62 DQ5 (io), 63 DQ4 (io), 64 DQ3 (io)

## M538032C
designator *  Reference: U
pins: 1 NC (in), 2 NC (in), 3 NC (in), 4 A18 (in), 5 A17 (in), 6 A7 (in), 7 A6 (in), 8 A5 (in), 9 A4 (in), 10 A3 (in), 11 A2 (in), 12 A1 (in), 13 A0 (in), 14 CE# (in), 15 VSS (power), 16 OE# (in), 17 D0 (io), 18 D8 (io), 19 D1 (io), 20 D9 (io), 21 D2 (io), 22 D10 (io), 23 D3 (io), 24 D11 (io), 25 VCC (power), 26 D4 (io), 27 D12 (io), 28 D5 (io), 29 D13 (io), 30 D6 (io), 31 D14 (io), 32 D7 (io), 33 D15 (io), 35 BHE (in), 36 A16 (in), 37 A15 (in), 38 A14 (in), 39 A13 (in), 40 A12 (in), 41 A11 (in), 42 A10 (in), 43 A9 (in), 44 A8 (in), 45 A19 (in), 46 NC (in), 47 NC (in), 48 NC (in)
text: M538032C\n

## Modem_Conn
designator *  Reference: J
pins: 1 GND (power), 2 VCC (power), 3 U1RD# (io), 4 DCD1# (io), 5 RI1# (io), 6 DRT1# (io), 7 DSR1 (io), 8 CTS1# (io), 9 RTS1# (io), 10 RXD1 (io), 11 TXD1 (io), 12 PNET5_Pluto (power), 13 GND (power), 14 GND (power), 15 PNET5_Pluto (power), 16 VSEN# (io), 17 VSDA# (io), 18 VPCK# (io), 19 VPDA# (io), 20 IRQ1# (io), 21 ADCK# (io), 22 S11 (io), 23 RSRVD1 (io), 24 RSRVD2 (io), 25 VCC (power), 26 GND (power)
text: Modem

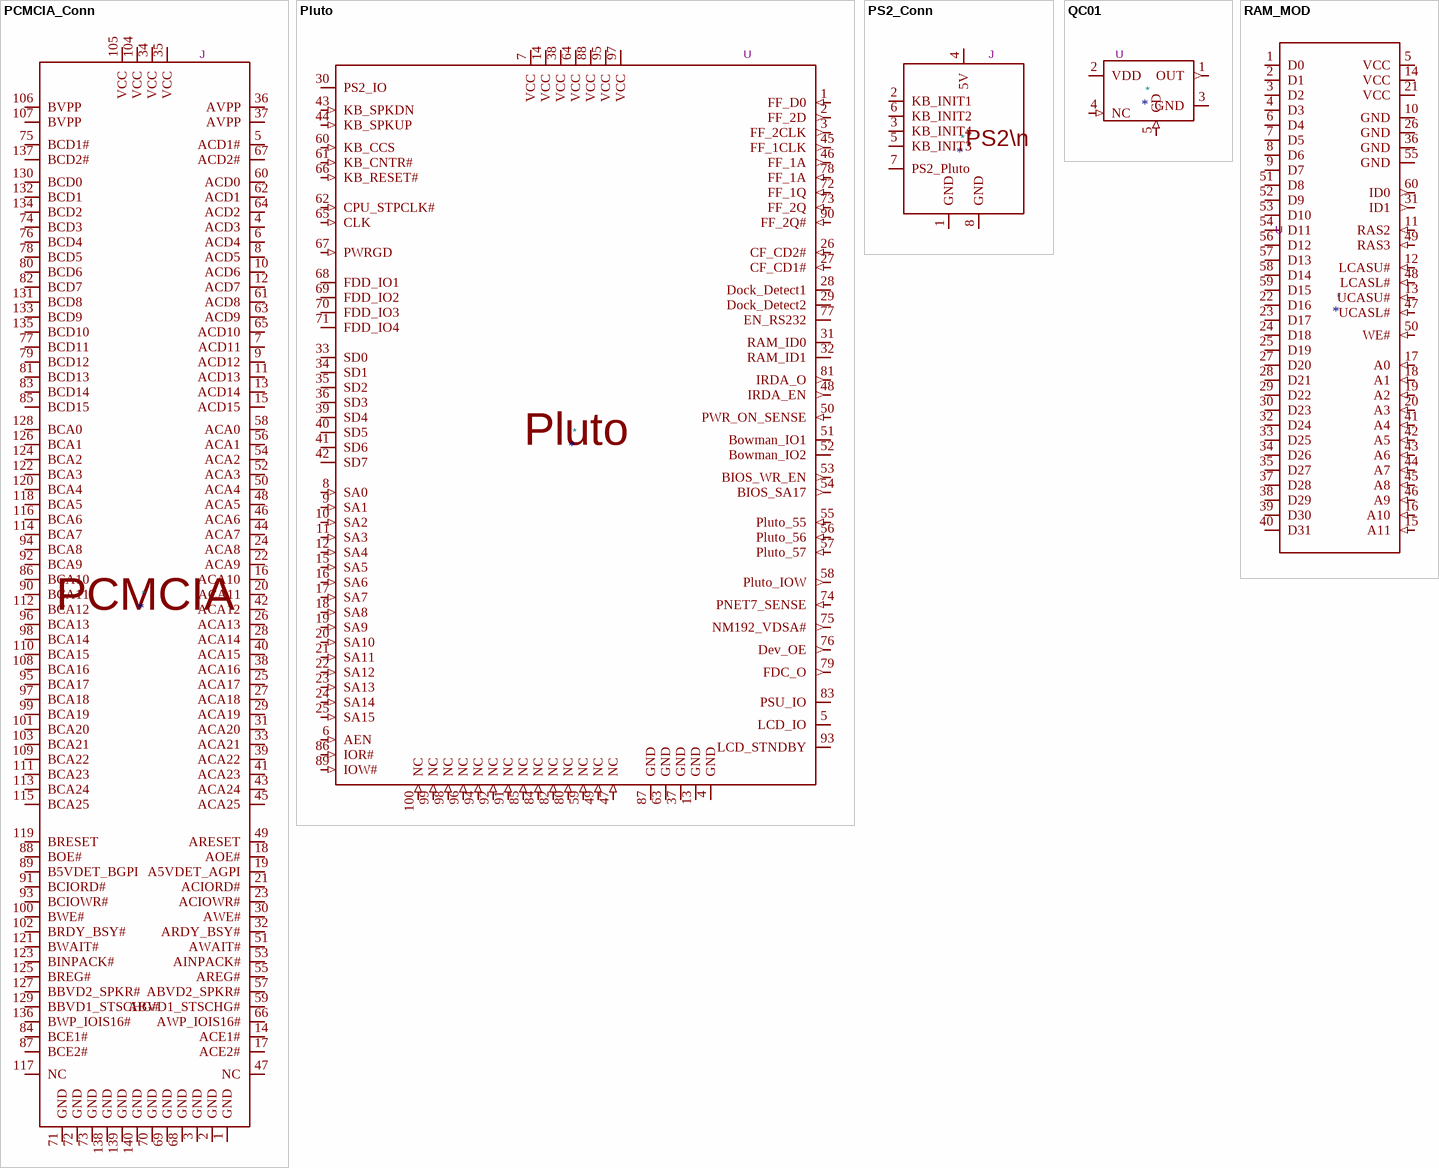
[diagram p7: symbols PCMCIA_Conn to RAM_MOD]

## PCMCIA_Conn
designator *  Reference: J
pins: 1 GND (power), 2 GND (power), 3 GND (power), 4 ACD3 (io), 5 ACD1# (io), 6 ACD4 (io), 7 ACD11 (io), 8 ACD5 (io), 9 ACD12 (io), 10 ACD6 (io), 11 ACD13 (io), 12 ACD7 (io), 13 ACD14 (io), 14 ACE1# (io), 15 ACD15 (io), 16 ACA10 (io), 17 ACE2# (io), 18 AOE# (io), 19 A5VDET_AGPI (io), 20 ACA11 (io), 21 ACIORD# (io), 22 ACA9 (io), 23 ACIOWR# (io), 24 ACA8 (io), 25 ACA17 (io), 26 ACA13 (io), 27 ACA18 (io), 28 ACA14 (io), 29 ACA19 (io), 30 AWE# (io), 31 ACA20 (io), 32 ARDY_BSY# (io), 33 ACA21 (io), 34 VCC (power), 35 VCC (power), 36 AVPP (power), 37 AVPP (power), 38 ACA16 (io), 39 ACA22 (io), 40 ACA15 (io), 41 ACA23 (io), 42 ACA12 (io), 43 ACA24 (io), 44 ACA7 (io), 45 ACA25 (io), 46 ACA6 (io), 47 NC (io), 48 ACA5 (io), 49 ARESET (io), 50 ACA4 (io), 51 AWAIT# (io), 52 ACA3 (io), 53 AINPACK# (io), 54 ACA2 (io), 55 AREG# (io), 56 ACA1 (io), 57 ABVD2_SPKR# (io), 58 ACA0 (io), 59 ABVD1_STSCHG# (io), 60 ACD0 (io), 61 ACD8 (io), 62 ACD1 (io), 63 ACD9 (io), 64 ACD2 (io), 65 ACD10 (io), 66 AWP_IOIS16# (io), 67 ACD2# (io), 68 GND (power), 69 GND (power), 70 GND (power), 71 GND (power), 72 GND (power), 73 GND (power), 74 BCD3 (io), 75 BCD1# (io), 76 BCD4 (io), 77 BCD11 (io), 78 BCD5 (io), 79 BCD12 (io), 80 BCD6 (io), 81 BCD13 (io), 82 BCD7 (io), 83 BCD14 (io), 84 BCE1# (io), 85 BCD15 (io), 86 BCA10 (io), 87 BCE2# (io), 88 BOE# (io), 89 B5VDET_BGPI (io), 90 BCA11 (io), 91 BCIORD# (io), 92 BCA9 (io), 93 BCIOWR# (io), 94 BCA8 (io), 95 BCA17 (io), 96 BCA13 (io), 97 BCA18 (io), 98 BCA14 (io), 99 BCA19 (io), 100 BWE# (io), 101 BCA20 (io), 102 BRDY_BSY# (io), 103 BCA21 (io), 104 VCC (power), 105 VCC (power), 106 BVPP (power), 107 BVPP (power), 108 BCA16 (io), 109 BCA22 (io), 110 BCA15 (io), 111 BCA23 (io), 112 BCA12 (io), 113 BCA24 (io), 114 BCA7 (io), 115 BCA25 (io), 116 BCA6 (io), 117 NC (io), 118 BCA5 (io), 119 BRESET (io), 120 BCA4 (io), 121 BWAIT# (io), 122 BCA3 (io), 123 BINPACK# (io), 124 BCA2 (io), 125 BREG# (io), 126 BCA1 (io), 127 BBVD2_SPKR# (io), 128 BCA0 (io), 129 BBVD1_STSCHG# (io), 130 BCD0 (io), 131 BCD8 (io), 132 BCD1 (io), 133 BCD9 (io), 134 BCD2 (io), 135 BCD10 (io), 136 BWP_IOIS16# (io), 137 BCD2# (io), 138 GND (power), 139 GND (power), 140 GND (power)
text: PCMCIA

## Pluto
designator *  Reference: U
pins: 1 FF_D0 (in), 2 FF_2D (out), 3 FF_2CLK (out), 4 GND (power), 5 LCD_IO (io), 6 AEN (in), 7 VCC (power), 8 SA0 (in), 9 SA1 (in), 10 SA2 (in), 11 SA3 (in), 12 SA4 (in), 13 GND (power), 14 VCC (power), 15 SA5 (in), 16 SA6 (in), 17 SA7 (in), 18 SA8 (in), 19 SA9 (in), 20 SA10 (in), 21 SA11 (in), 22 SA12 (in), 23 SA13 (in), 24 SA14 (in), 25 SA15 (in), 26 CF_CD2# (in), 27 CF_CD1# (in), 28 Dock_Detect1 (io), 29 Dock_Detect2 (io), 30 PS2_IO (io), 31 RAM_ID0 (io), 32 RAM_ID1 (io), 33 SD0 (io), 34 SD1 (io), 35 SD2 (io), 36 SD3 (io), 37 GND (power), 38 VCC (power), 39 SD4 (io), 40 SD5 (io), 41 SD6 (io), 42 SD7 (io), 43 KB_SPKDN (in), 44 KB_SPKUP (in), 45 FF_1CLK (out), 46 FF_1A (out), 47 NC (in), 48 IRDA_EN (out), 49 NC (in), 50 PWR_ON_SENSE (in), 51 Bowman_IO1 (io), 52 Bowman_IO2 (io), 53 BIOS_WR_EN (out), 54 BIOS_SA17 (out), 55 Pluto_55 (in), 56 Pluto_56 (in), 57 Pluto_57 (in), 58 Pluto_IOW (out), 59 NC (in), 60 KB_CCS (in), 61 KB_CNTR# (in), 62 CPU_STPCLK# (in), 63 GND (power), 64 VCC (power), 65 CLK (in), 66 KB_RESET# (in), 67 PWRGD (in), 68 FDD_IO1 (io), 69 FDD_IO2 (io), 70 FDD_IO3 (io), 71 FDD_IO4 (io), 72 FF_1Q (in), 73 FF_2Q (in), 74 PNET7_SENSE (in), 75 NM192_VDSA# (out), 76 Dev_OE (out), 77 EN_RS232 (io), 78 FF_1A (in), 79 FDC_O (out), 80 NC (in), 81 IRDA_O (out), 82 NC (in), 83 PSU_IO (io), 84 NC (in), 85 NC (in), 86 IOR# (in), 87 GND (power), 88 VCC (power), 89 IOW# (in), 90 FF_2Q# (in), 91 NC (in), 92 NC (in), 93 LCD_STNDBY (io), 94 NC (in), 95 VCC (power), 96 NC (in), 97 VCC (power), 98 NC (in), 99 NC (in), 100 NC (in)

## PS2_Conn
designator *  Reference: J
pins: 1 GND (power), 2 KB_INIT1 (io), 3 KB_INIT4 (io), 4 5V (power), 5 KB_INIT3 (io), 6 KB_INIT2 (io), 7 PS2_Pluto (io), 8 GND (power)
text: PS2\n

## QC01
designator *  Reference: U
pins: 1 OUT (out), 2 VDD (power), 3 GND (power), 4 NC (in), 5 CD (in)

## RAM_MOD
designator *  Reference: U
pins: 1 D0 (io), 2 D1 (io), 3 D2 (io), 4 D3 (io), 5 VCC (power), 6 D4 (io), 7 D5 (io), 8 D6 (io), 9 D7 (io), 10 GND (power), 11 RAS2 (in), 12 LCASU# (in), 13 UCASU# (in), 14 VCC (power), 15 A11 (in), 16 A10 (in), 17 A0 (in), 18 A1 (in), 19 A2 (in), 20 A3 (in), 21 VCC (power), 22 D16 (io), 23 D17 (io), 24 D18 (io), 25 D19 (io), 26 GND (power), 27 D20 (io), 28 D21 (io), 29 D22 (io), 30 D23 (io), 31 ID1 (out), 32 D24 (io), 33 D25 (io), 34 D26 (io), 35 D27 (io), 36 GND (power), 37 D28 (io), 38 D29 (io), 39 D30 (io), 40 D31 (io), 41 A4 (in), 42 A5 (in), 43 A6 (in), 44 A7 (in), 45 A8 (in), 46 A9 (in), 47 UCASL# (in), 48 LCASL# (in), 49 RAS3 (in), 50 WE# (in), 51 D8 (io), 52 D9 (io), 53 D10 (io), 54 D11 (io), 55 GND (power), 56 D12 (io), 57 D13 (io), 58 D14 (io), 59 D15 (io), 60 ID0 (out)

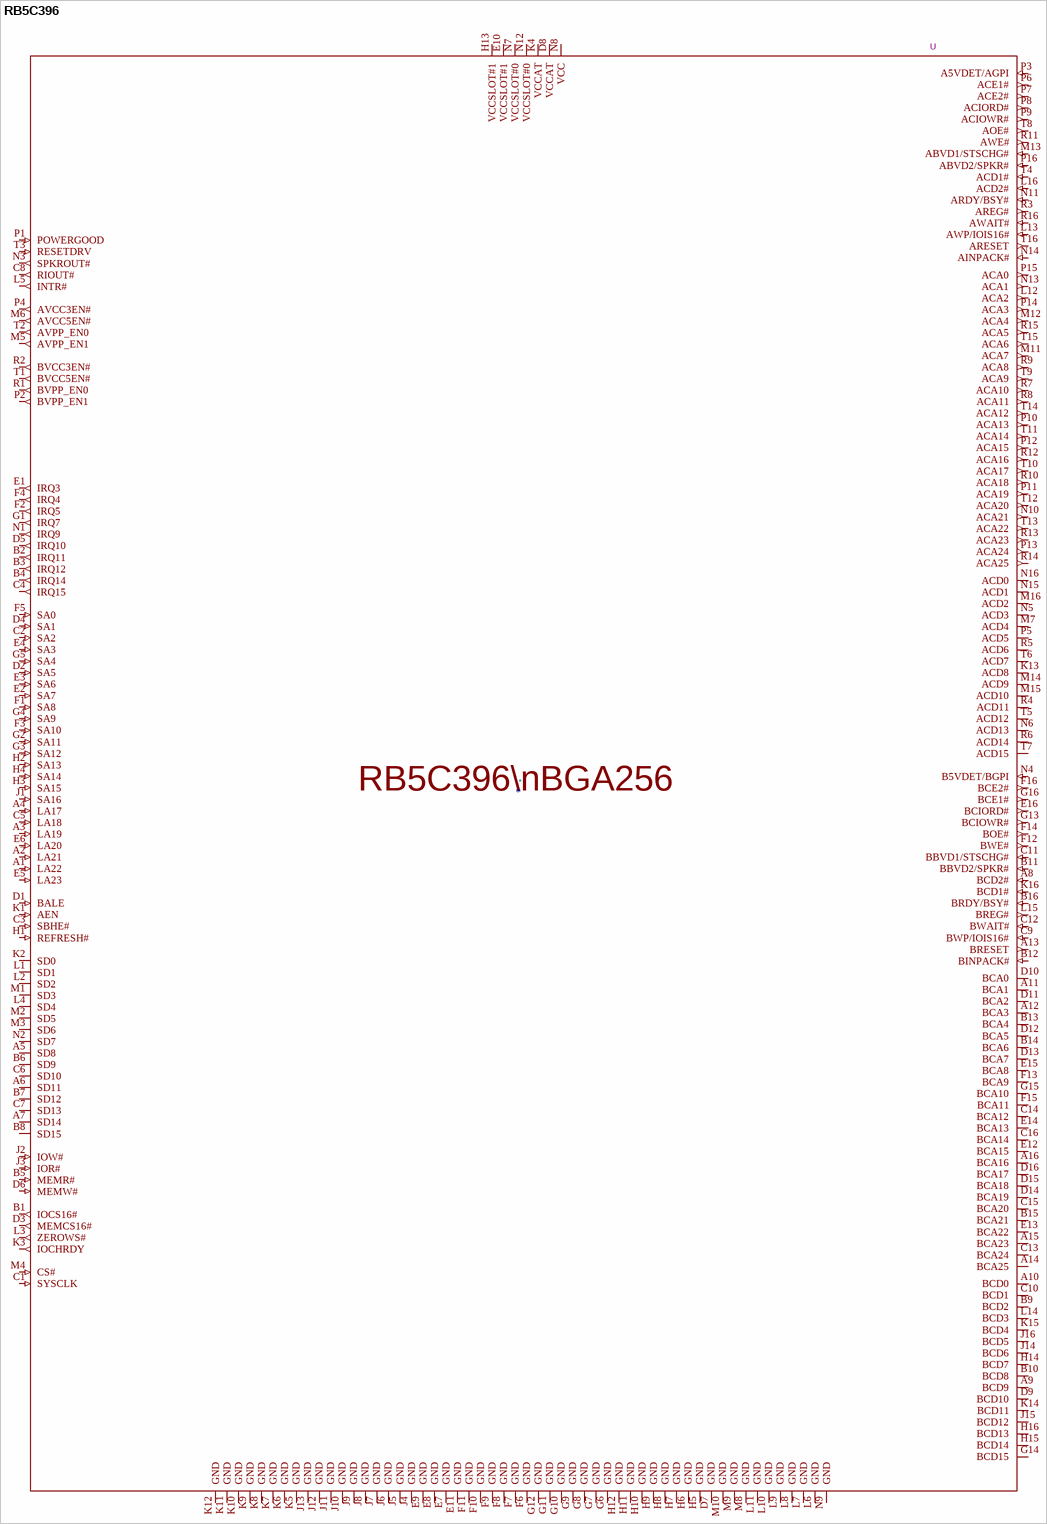
[diagram p8: symbol RB5C396]

## RB5C396
designator *  Reference: U
pins: A1 LA22 (in), A2 LA21 (in), A3 LA19 (in), A4 LA17 (in), A5 SD8 (io), A6 SD11 (io), A7 SD14 (io), A8 BCD2# (in), A9 BCD9 (io), A10 BCD0 (io), A11 BCA1 (io), A12 BCA3 (io), A13 BRESET (out), A14 BCA25 (io), A15 BCA23 (io), A16 BCA16 (io), B1 IOCS16# (out), B2 IRQ11 (out), B3 IRQ12 (out), B4 IRQ14 (out), B5 MEMR# (in), B6 SD9 (io), B7 SD12 (io), B8 SD15 (io), B9 BCD2 (io), B10 BCD8 (io), B11 BBVD2/SPKR# (in), B12 BINPACK# (in), B13 BCA4 (io), B14 BCA6 (io), B15 BCA21 (io), B16 BRDY/BSY# (in), C1 SYSCLK (in), C2 SA2 (in), C3 SBHE# (in), C4 IRQ15 (out), C5 LA18 (in), C6 SD10 (io), C7 SD13 (io), C8 RIOUT# (out), C9 BWP/IOIS16# (in), C10 BCD1 (io), C11 BBVD1/STSCHG# (in), C12 BWAIT# (in), C13 BCA24 (io), C14 BCA12 (io), C15 BCA20 (io), C16 BCA14 (io), D1 BALE (in), D2 SA5 (in), D3 MEMCS16# (out), D4 SA1 (in), D5 IRQ10 (out), D6 MEMW# (in), D7 GND (power), D8 VCCAT (power), D9 BCD10 (io), D10 BCA0 (io), D11 BCA2 (io), D12 BCA5 (io), D13 BCA7 (io), D14 BCA19 (io), D15 BCA18 (io), D16 BCA17 (io), E1 IRQ3 (out), E2 SA7 (in), E3 SA6 (in), E4 SA3 (in), E5 LA23 (in), E6 LA20 (in), E7 GND (power), E8 GND (power), E9 GND (power), E10 VCCSLOT#1 (power), E11 GND (power), E12 BCA15 (io), E13 BCA22 (io), E14 BCA13 (io), E15 BCA8 (io), E16 BCIORD# (out), F1 SA8 (in), F2 IRQ5 (out), F3 SA10 (in), F4 IRQ4 (out), F5 SA0 (in), F6 GND (power), F7 GND (power), F8 GND (power), F9 GND (power), F10 GND (power), F11 GND (power), F12 BWE# (out), F13 BCA9 (io), F14 BOE# (out), F15 BCA11 (io), F16 BCE2# (out), G1 IRQ7 (out), G2 SA11 (in), G3 SA12 (in), G4 SA9 (in), G5 SA4 (in), G6 GND (power), G7 GND (power), G8 GND (power), G9 GND (power), G10 GND (power), G11 GND (power), G12 GND (power), G13 BCIOWR# (out), G14 BCD15 (io), G15 BCA10 (io), G16 BCE1# (out), H1 REFRESH# (in), H2 SA13 (in), H3 SA15 (in), H4 SA14 (in), H5 GND (power), H6 GND (power), H7 GND (power), H8 GND (power), H9 GND (power), H10 GND (power), H11 GND (power), H12 GND (power), H13 VCCSLOT#1 (power), H14 BCD7 (io), H15 BCD14 (io), H16 BCD13 (io), J1 SA16 (in), J2 IOW# (in), J3 IOR# (in), J4 GND (power), J5 GND (power), J6 GND (power), J7 GND (power), J8 GND (power), J9 GND (power), J10 GND (power), J11 GND (power), J12 GND (power), J13 GND (power), J14 BCD6 (io), J15 BCD12 (io), J16 BCD5 (io), K1 AEN (in), K2 SD0 (io), K3 IOCHRDY (out), K4 VCCAT (power), K5 GND (power), K6 GND (power), K7 GND (power), K8 GND (power), K9 GND (power), K10 GND (power), K11 GND (power), K12 GND (power), K13 ACD8 (io), K14 BCD11 (io), K15 BCD4 (io), K16 BCD1# (in), L1 SD1 (io), L2 SD2 (io), L3 ZEROWS# (out), L4 SD4 (io), L5 INTR# (out), L6 GND (power), L7 GND (power), L8 GND (power), L9 GND (power), L10 GND (power), L11 GND (power), L12 ACA2 (out), L13 AWP/IOIS16# (in), L14 BCD3 (io), L15 BREG# (out), L16 ACD2# (in), M1 SD3 (io), M2 SD5 (io), M3 SD6 (io), M4 CS# (in), M5 AVPP_EN1 (out), M6 AVCC5EN# (out), M7 ACD4 (io), M8 GND (power), M9 GND (power), M10 GND (power), M11 ACA7 (out), M12 ACA4 (out), M13 ABVD1/STSCHG# (in), M14 ACD9 (io), M15 ACD10 (io), M16 ACD2 (io), N1 IRQ9 (out), N2 SD7 (io), N3 SPKROUT# (out), N4 B5VDET/BGPI (in), N5 ACD3 (io), N6 ACD13 (io), N7 VCCSLOT#0 (power), N8 VCC (power), N9 GND (power), N10 ACA21 (out), N11 ARDY/BSY# (in), N12 VCCSLOT#0 (power), N13 ACA1 (out), N14 AINPACK# (in), N15 ACD1 (io), N16 ACD0 (io), P1 POWERGOOD (in), P2 BVPP_EN1 (out), P3 A5VDET/AGPI (in), P4 AVCC3EN# (out), P5 ACD5 (io), P6 ACE1# (out), P7 ACE2# (out), P8 ACIORD# (out), P9 ACIOWR# (out), P10 ACA13 (out), P11 ACA19 (out), P12 ACA15 (out), P13 ACA24 (out), P14 ACA3 (out), P15 ACA0 (out), P16 ABVD2/SPKR# (in), R1 BVPP_EN0 (out), R2 BVCC3EN# (out), R3 AREG# (out), R4 ACD11 (io), R5 ACD6 (io), R6 ACD14 (io), R7 ACA10 (out), R8 ACA11 (out), R9 ACA8 (out), R10 ACA18 (out), R11 AWE# (out), R12 ACA16 (out), R13 ACA23 (out), R14 ACA25 (out), R15 ACA5 (out), R16 AWAIT# (in), T1 BVCC5EN# (out), T2 AVPP_EN0 (out), T3 RESETDRV (in), T4 ACD1# (in), T5 ACD12 (io), T6 ACD7 (io), T7 ACD15 (io), T8 AOE# (out), T9 ACA9 (out), T10 ACA17 (out), T11 ACA14 (out), T12 ACA20 (out), T13 ACA22 (out), T14 ACA12 (out), T15 ACA6 (out), T16 ARESET (out)
text: RB5C396\nBGA256

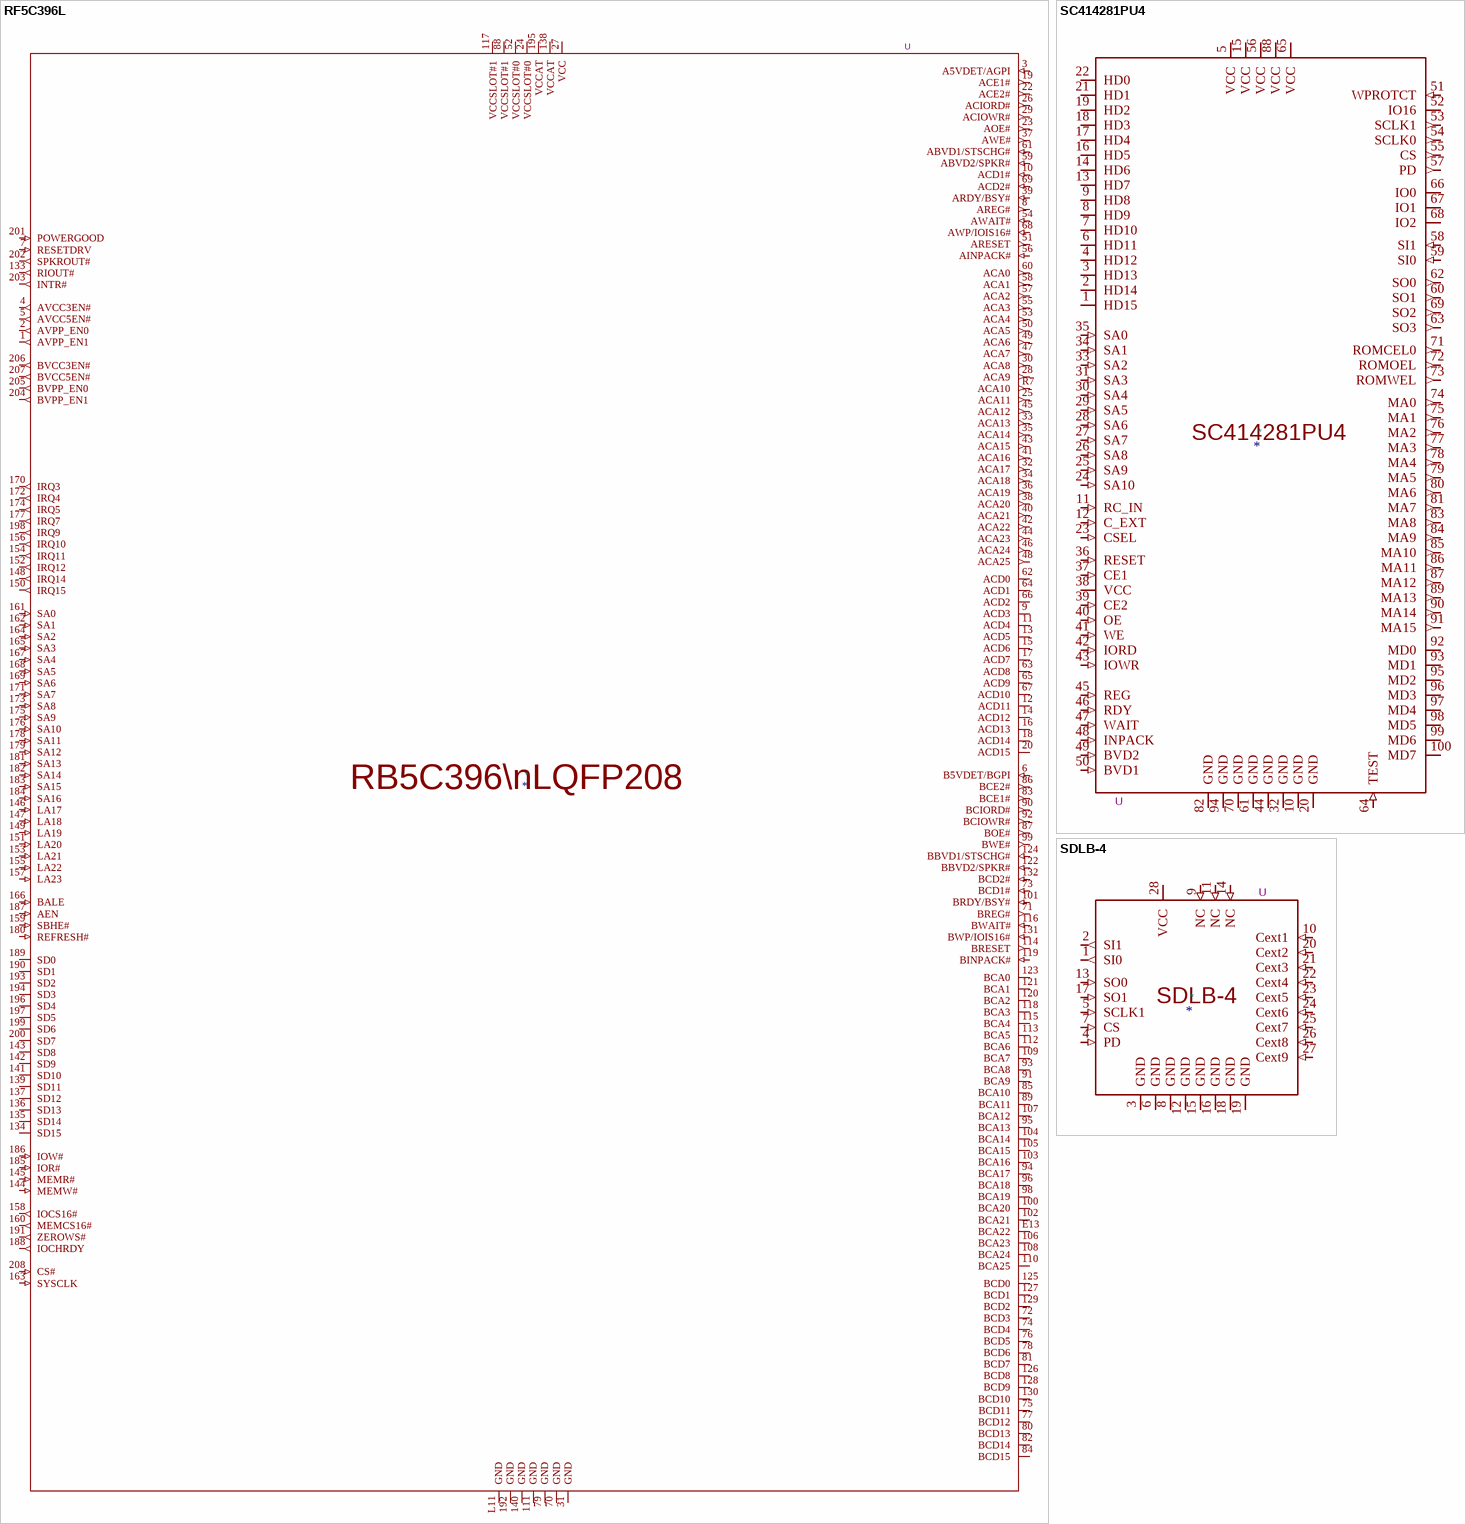
[diagram p9: symbols RF5C396L to SDLB-4]

## RF5C396L
designator *  Reference: U
pins: 1 AVPP_EN1 (out), 2 AVPP_EN0 (out), 3 A5VDET/AGPI (in), 4 AVCC3EN# (out), 5 AVCC5EN# (out), 6 B5VDET/BGPI (in), 7 RESETDRV (in), 8 AREG# (out), 9 ACD3 (io), 10 ACD1# (in), 11 ACD4 (io), 12 ACD11 (io), 13 ACD5 (io), 14 ACD12 (io), 15 ACD6 (io), 16 ACD13 (io), 17 ACD7 (io), 18 ACD14 (io), 19 ACE1# (out), 20 ACD15 (io), 22 ACE2# (out), 23 AOE# (out), 24 VCCSLOT#0 (power), 25 ACA11 (out), 26 ACIORD# (out), 27 VCC (power), 28 ACA9 (out), 29 ACIOWR# (out), 30 ACA8 (out), 31 GND (power), 32 ACA17 (out), 33 ACA13 (out), 34 ACA18 (out), 35 ACA14 (out), 36 ACA19 (out), 37 AWE# (out), 38 ACA20 (out), 39 ARDY/BSY# (in), 40 ACA21 (out), 41 ACA16 (out), 42 ACA22 (out), 43 ACA15 (out), 44 ACA23 (out), 45 ACA12 (out), 46 ACA24 (out), 47 ACA7 (out), 48 ACA25 (out), 49 ACA6 (out), 50 ACA5 (out), 51 ARESET (out), 52 VCCSLOT#0 (power), 53 ACA4 (out), 54 AWAIT# (in), 55 ACA3 (out), 56 AINPACK# (in), 57 ACA2 (out), 58 ACA1 (out), 59 ABVD2/SPKR# (in), 60 ACA0 (out), 61 ABVD1/STSCHG# (in), 62 ACD0 (io), 63 ACD8 (io), 64 ACD1 (io), 65 ACD9 (io), 66 ACD2 (io), 67 ACD10 (io), 68 AWP/IOIS16# (in), 69 ACD2# (in), 70 GND (power), 71 BREG# (out), 72 BCD3 (io), 73 BCD1# (in), 74 BCD4 (io), 75 BCD11 (io), 76 BCD5 (io), 77 BCD12 (io), 78 BCD6 (io), 79 GND (power), 80 BCD13 (io), 81 BCD7 (io), 82 BCD14 (io), 83 BCE1# (out), 84 BCD15 (io), 85 BCA10 (io), 86 BCE2# (out), 87 BOE# (out), 88 VCCSLOT#1 (power), 89 BCA11 (io), 90 BCIORD# (out), 91 BCA9 (io), 92 BCIOWR# (out), 93 BCA8 (io), 94 BCA17 (io), 95 BCA13 (io), 96 BCA18 (io), 98 BCA19 (io), 99 BWE# (out), 100 BCA20 (io), 101 BRDY/BSY# (in), 102 BCA21 (io), 103 BCA16 (io), 104 BCA14 (io), 105 BCA15 (io), 106 BCA23 (io), 107 BCA12 (io), 108 BCA24 (io), 109 BCA7 (io), 110 BCA25 (io), 111 GND (power), 112 BCA6 (io), 113 BCA5 (io), 114 BRESET (out), 115 BCA4 (io), 116 BWAIT# (in), 117 VCCSLOT#1 (power), 118 BCA3 (io), 119 BINPACK# (in), 120 BCA2 (io), 121 BCA1 (io), 122 BBVD2/SPKR# (in), 123 BCA0 (io), 124 BBVD1/STSCHG# (in), 125 BCD0 (io), 126 BCD8 (io), 127 BCD1 (io), 128 BCD9 (io), 129 BCD2 (io), 130 BCD10 (io), 131 BWP/IOIS16# (in), 132 BCD2# (in), 133 RIOUT# (out), 134 SD15 (io), 135 SD14 (io), 136 SD13 (io), 137 SD12 (io), 138 VCCAT (power), 139 SD11 (io), 140 GND (power), 141 SD10 (io), 142 SD9 (io), 143 SD8 (io), 144 MEMW# (in), 145 MEMR# (in), 146 LA17 (in), 147 LA18 (in), 148 IRQ14 (out), 149 LA19 (in), 150 IRQ15 (out), 151 LA20 (in), 152 IRQ12 (out), 153 LA21 (in), 154 IRQ11 (out), 155 LA22 (in), 156 IRQ10 (out), 157 LA23 (in), 158 IOCS16# (out), 159 SBHE# (in), 160 MEMCS16# (out), 161 SA0 (in), 162 SA1 (in), 163 SYSCLK (in), 164 SA2 (in), 165 SA3 (in), 166 BALE (in), 167 SA4 (in), 168 SA5 (in), 169 SA6 (in), 170 IRQ3 (out), 171 SA7 (in), 172 IRQ4 (out), 173 SA8 (in), 174 IRQ5 (out), 175 SA9 (in), 176 SA10 (in), 177 IRQ7 (out), 178 SA11 (in), 179 SA12 (in), 180 REFRESH# (in), 181 SA13 (in), 182 SA14 (in), 183 SA15 (in), 184 SA16 (in), 185 IOR# (in), 186 IOW# (in), 187 AEN (in), 188 IOCHRDY (out), 189 SD0 (io), 190 SD1 (io), 191 ZEROWS# (out), 192 GND (power), 193 SD2 (io), 194 SD3 (io), 195 VCCAT (power), 196 SD4 (io), 197 SD5 (io), 198 IRQ9 (out), 199 SD6 (io), 200 SD7 (io), 201 POWERGOOD (in), 202 SPKROUT# (out), 203 INTR# (out), 204 BVPP_EN1 (out), 205 BVPP_EN0 (out), 206 BVCC3EN# (out), 207 BVCC5EN# (out), 208 CS# (in), E13 BCA22 (io), L11 GND (power), R7 ACA10 (out)
text: RB5C396\nLQFP208

## SC414281PU4
designator *  Reference: U
pins: 1 HD15 (io), 2 HD14 (io), 3 HD13 (io), 4 HD12 (io), 5 VCC (power), 6 HD11 (io), 7 HD10 (io), 8 HD9 (io), 9 HD8 (io), 10 GND (power), 11 RC_IN (in), 12 C_EXT (in), 13 HD7 (io), 14 HD6 (io), 15 VCC (power), 16 HD5 (io), 17 HD4 (io), 18 HD3 (io), 19 HD2 (io), 20 GND (power), 21 HD1 (io), 22 HD0 (io), 23 CSEL (in), 24 SA10 (in), 25 SA9 (in), 26 SA8 (in), 27 SA7 (in), 28 SA6 (in), 29 SA5 (in), 30 SA4 (in), 31 SA3 (in), 32 GND (power), 33 SA2 (in), 34 SA1 (in), 35 SA0 (in), 36 RESET (in), 37 CE1 (in), 38 VCC (power), 39 CE2 (in), 40 OE (in), 41 WE (in), 42 IORD (in), 43 IOWR (in), 44 GND (power), 45 REG (in), 46 RDY (in), 47 WAIT (in), 48 INPACK (in), 49 BVD2 (in), 50 BVD1 (in), 51 WPROTCT (in), 52 IO16 (io), 53 SCLK1 (out), 54 SCLK0 (out), 55 CS (out), 56 VCC (power), 57 PD (out), 58 SI1 (in), 59 SI0 (in), 60 SO1 (out), 61 GND (power), 62 SO0 (out), 63 SO3 (out), 64 TEST (in), 65 VCC (power), 66 IO0 (io), 67 IO1 (io), 68 IO2 (io), 69 SO2 (out), 70 GND (power), 71 ROMCEL0 (out), 72 ROMOEL (out), 73 ROMWEL (out), 74 MA0 (out), 75 MA1 (out), 76 MA2 (out), 77 MA3 (out), 78 MA4 (out), 79 MA5 (out), 80 MA6 (out), 81 MA7 (out), 82 GND (power), 83 MA8 (out), 84 MA9 (out), 85 MA10 (out), 86 MA11 (out), 87 MA12 (out), 88 VCC (power), 89 MA13 (out), 90 MA14 (out), 91 MA15 (out), 92 MD0 (io), 93 MD1 (io), 94 GND (power), 95 MD2 (io), 96 MD3 (io), 97 MD4 (io), 98 MD5 (io), 99 MD6 (io), 100 MD7 (io)

## SDLB-4
designator *  Reference: U
pins: 1 SI0 (out), 2 SI1 (out), 3 GND (power), 4 PD (in), 5 SCLK1 (in), 6 GND (power), 7 CS (in), 8 GND (power), 9 NC (in), 10 Cext1 (in), 11 NC (in), 12 GND (power), 13 SO0 (in), 14 NC (in), 15 GND (power), 16 GND (power), 17 SO1 (in), 18 GND (power), 19 GND (power), 20 Cext2 (in), 21 Cext3 (in), 22 Cext4 (in), 23 Cext5 (in), 24 Cext6 (in), 25 Cext7 (in), 26 Cext8 (in), 27 Cext9 (in), 28 VCC (power)

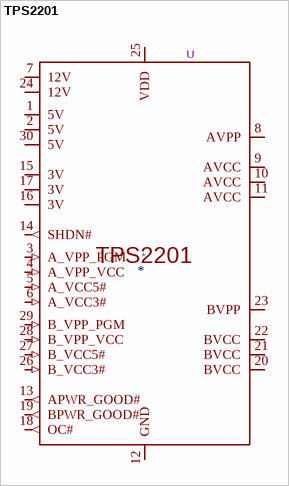
[diagram p10: symbol TPS2201]

## TPS2201
designator *  Reference: U
pins: 1 5V (power), 2 5V (power), 3 A_VPP_PGM (in), 4 A_VPP_VCC (in), 5 A_VCC5# (in), 6 A_VCC3# (in), 7 12V (power), 8 AVPP (power), 9 AVCC (power), 10 AVCC (power), 11 AVCC (power), 12 GND (power), 13 APWR_GOOD# (out), 14 SHDN# (out), 15 3V (power), 16 3V (power), 17 3V (power), 18 OC# (out), 19 BPWR_GOOD# (out), 20 BVCC (power), 21 BVCC (power), 22 BVCC (power), 23 BVPP (power), 24 12V (power), 25 VDD (power), 26 B_VCC3# (in), 27 B_VCC5# (in), 28 B_VPP_VCC (in), 29 B_VPP_PGM (in), 30 5V (power)

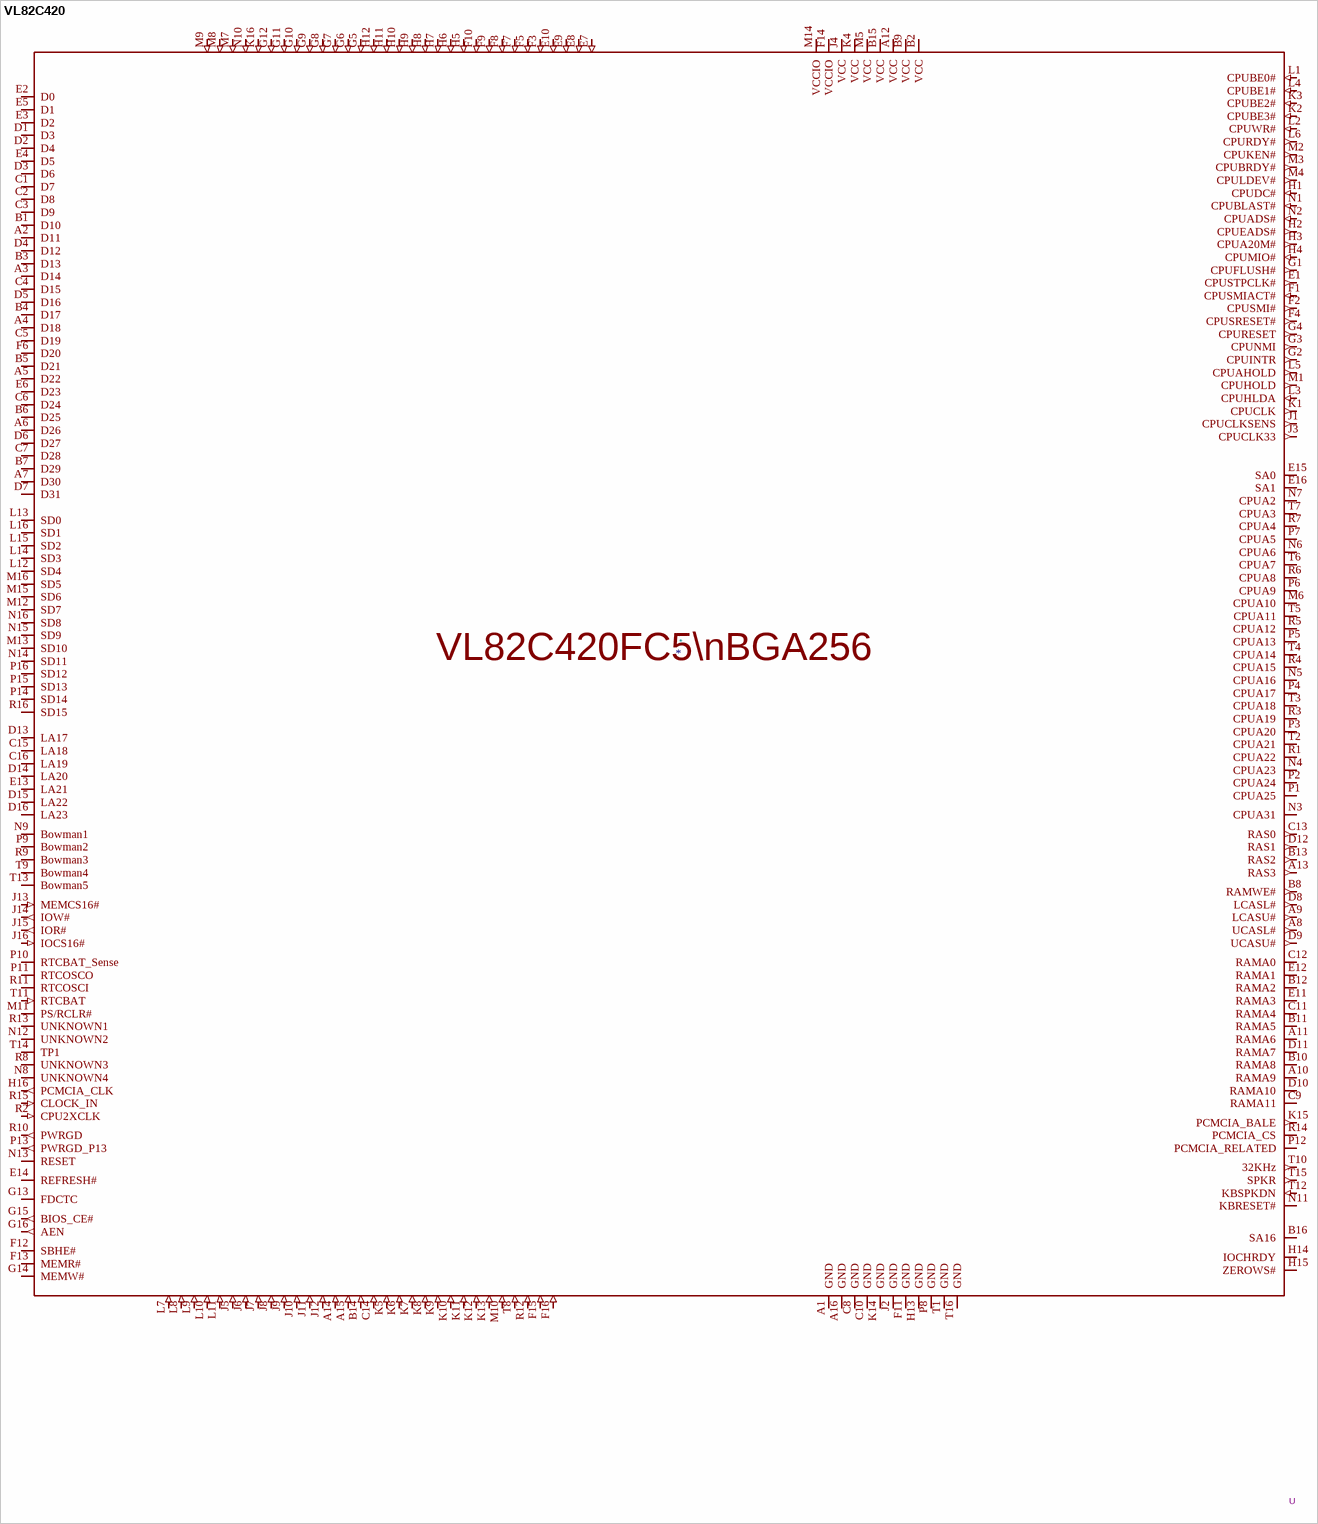
[diagram p11: symbol VL82C420]

## VL82C420
designator *  Reference: U
pins: A1 GND (power), A2 D11 (io), A3 D14 (io), A4 D18 (io), A5 D22 (io), A6 D26 (io), A7 D30 (io), A8 UCASL# (out), A9 LCASU# (out), A10 RAMA9 (io), A11 RAMA6 (io), A12 VCC (power), A13 RAS3 (out), A14 (in), A15 (in), A16 GND (power), B1 D10 (io), B2 VCC (power), B3 D13 (io), B4 D17 (io), B5 D21 (io), B6 D25 (io), B7 D29 (io), B8 RAMWE# (out), B9 VCC (power), B10 RAMA8 (io), B11 RAMA5 (io), B12 RAMA2 (io), B13 RAS2 (out), B14 (in), B15 VCC (power), B16 SA16 (io), C1 D7 (io), C2 D8 (io), C3 D9 (io), C4 D15 (io), C5 D19 (io), C6 D24 (io), C7 D28 (io), C8 GND (power), C9 RAMA11 (io), C10 GND (power), C11 RAMA4 (io), C12 RAMA0 (io), C13 RAS0 (out), C14 (in), C15 LA18 (io), C16 LA19 (io), D1 D3 (io), D2 D4 (io), D3 D6 (io), D4 D12 (io), D5 D16 (io), D6 D27 (io), D7 D31 (io), D8 LCASL# (out), D9 UCASU# (out), D10 RAMA10 (io), D11 RAMA7 (io), D12 RAS1 (out), D13 LA17 (io), D14 LA20 (io), D15 LA22 (io), D16 LA23 (io), E1 CPUSTPCLK# (out), E2 D0 (io), E3 D2 (io), E4 D5 (io), E5 D1 (io), E6 D23 (io), E7 (in), E8 (in), E9 (in), E10 (in), E11 RAMA3 (io), E12 RAMA1 (io), E13 LA21 (io), E14 REFRESH# (io), E15 SA0 (io), E16 SA1 (io), F1 CPUSMIACT# (in), F2 CPUSMI# (out), F3 (in), F4 CPUSRESET# (out), F5 (in), F6 D20 (io), F7 (in), F8 (in), F9 (in), F10 (in), F11 GND (power), F12 SBHE# (io), F13 MEMR# (io), F14 VCCIO (power), F15 (in), F16 (in), G1 CPUFLUSH# (out), G2 CPUINTR (out), G3 CPUNMI (out), G4 CPURESET (out), G5 (in), G6 (in), G7 (in), G8 (in), G9 (in), G10 (in), G11 (in), G12 (in), G13 FDCTC (io), G14 MEMW# (io), G15 BIOS_CE# (out), G16 AEN (out), H1 CPUDC# (in), H2 CPUEADS# (out), H3 CPUA20M# (out), H4 CPUMIO# (in), H5 (in), H6 (in), H7 (in), H8 (in), H9 (in), H10 (in), H11 (in), H12 (in), H13 GND (power), H14 IOCHRDY (io), H15 ZEROWS# (io), H16 PCMCIA_CLK (out), J1 CPUCLKSENS (out), J2 GND (power), J3 CPUCLK33 (out), J4 VCC (power), J5 (in), J6 (in), J7 (in), J8 (in), J9 (in), J10 (in), J11 (in), J12 (in), J13 MEMCS16# (in), J14 IOW# (out), J15 IOR# (out), J16 IOCS16# (in), K1 CPUCLK (out), K2 CPUBE3# (in), K3 CPUBE2# (in), K4 VCC (power), K5 (in), K6 (in), K7 (in), K8 (in), K9 (in), K10 (in), K11 (in), K12 (in), K13 (in), K14 GND (power), K15 PCMCIA_BALE (out), K16 (in), L1 CPUBE0# (in), L2 CPUWR# (in), L3 CPUHLDA (in), L4 CPUBE1# (in), L5 CPUAHOLD (out), L6 CPURDY# (out), L7 (in), L8 (in), L9 (in), L10 (in), L11 (in), L12 SD4 (io), L13 SD0 (io), L14 SD3 (io), L15 SD2 (io), L16 SD1 (io), M1 CPUHOLD (out), M2 CPUKEN# (out), M3 CPUBRDY# (out), M4 CPULDEV# (out), M5 VCC (power), M6 CPUA10 (io), M7 (in), M8 (in), M9 (in), M10 (in), M11 PS/RCLR# (io), M12 SD7 (io), M13 SD10 (io), M14 VCCIO (power), M15 SD6 (io), M16 SD5 (io), N1 CPUBLAST# (in), N2 CPUADS# (in), N3 CPUA31 (io), N4 CPUA23 (io), N5 CPUA16 (io), N6 CPUA6 (io), N7 CPUA2 (io), N8 UNKNOWN4 (io), N9 Bowman1 (io), N10 (in), N11 KBRESET# (io), N12 UNKNOWN2 (io), N13 RESET (io), N14 SD11 (io), N15 SD9 (io), N16 SD8 (io), P1 CPUA25 (io), P2 CPUA24 (io), P3 CPUA20 (io), P4 CPUA17 (io), P5 CPUA13 (io), P6 CPUA9 (io), P7 CPUA5 (io), P8 GND (power), P9 Bowman2 (io), P10 RTCBAT_Sense (io), P11 RTCOSCO (io), P12 PCMCIA_RELATED (io), P13 PWRGD_P13 (out), P14 SD14 (io), P15 SD13 (io), P16 SD12 (io), R1 CPUA22 (io), R2 CPU2XCLK (in), R3 CPUA19 (io), R4 CPUA15 (io), R5 CPUA12 (io), R6 CPUA8 (io), R7 CPUA4 (io), R8 UNKNOWN3 (io), R9 Bowman3 (io), R10 PWRGD (out), R11 RTCOSCI (io), R12 (in), R13 UNKNOWN1 (io), R14 PCMCIA_CS (io), R15 CLOCK_IN (in), R16 SD15 (io), T1 GND (power), T2 CPUA21 (io), T3 CPUA18 (io), T4 CPUA14 (io), T5 CPUA11 (io), T6 CPUA7 (io), T7 CPUA3 (io), T8 (in), T9 Bowman4 (io), T10 32KHz (out), T11 RTCBAT (in), T12 KBSPKDN (in), T13 Bowman5 (io), T14 TP1 (io), T15 SPKR (out), T16 GND (power)
text: VL82C420FC5\nBGA256

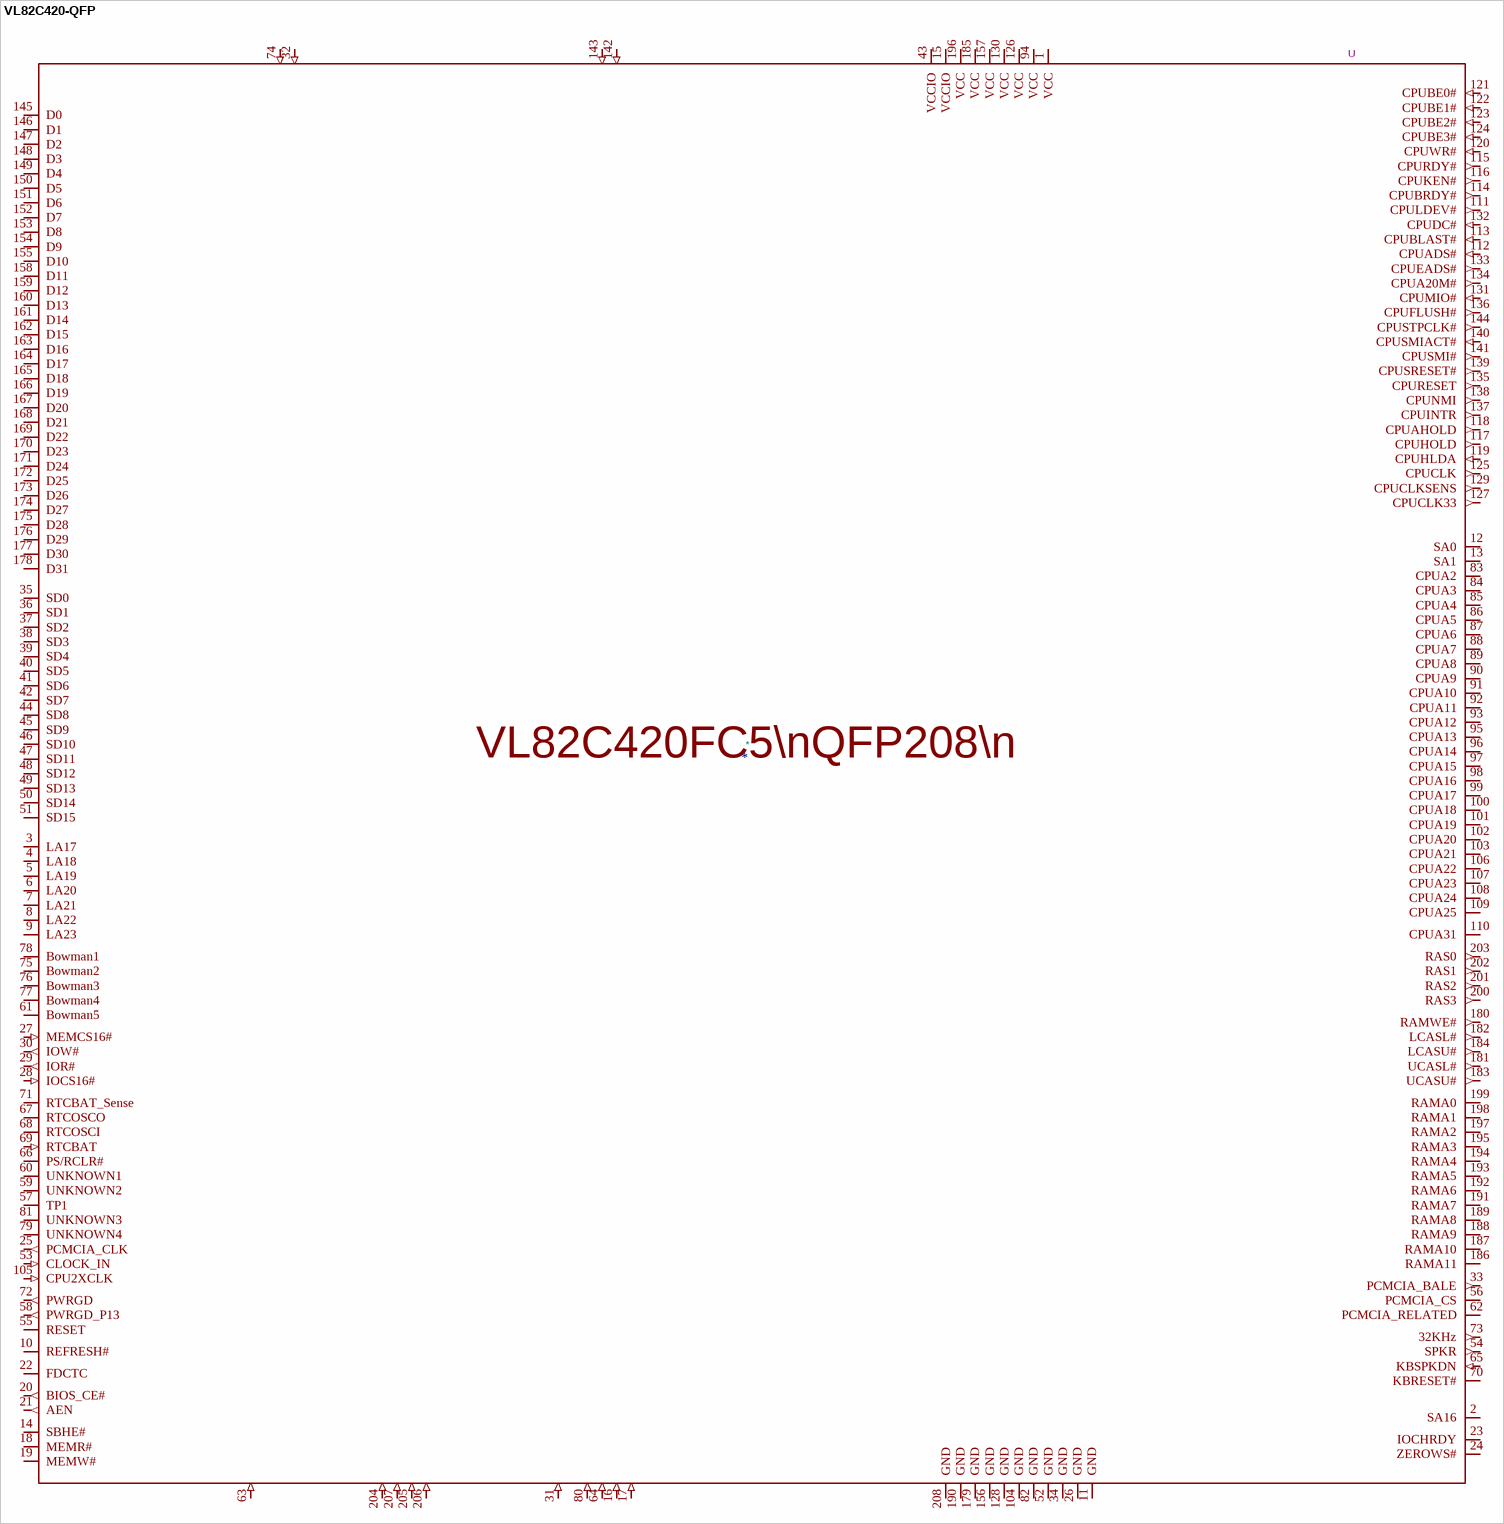
[diagram p12: symbol VL82C420-QFP]